# Altium schematic symbol library MCU_Microchip_PIC16.SchLib: 252 symbols (part 4 of 5)
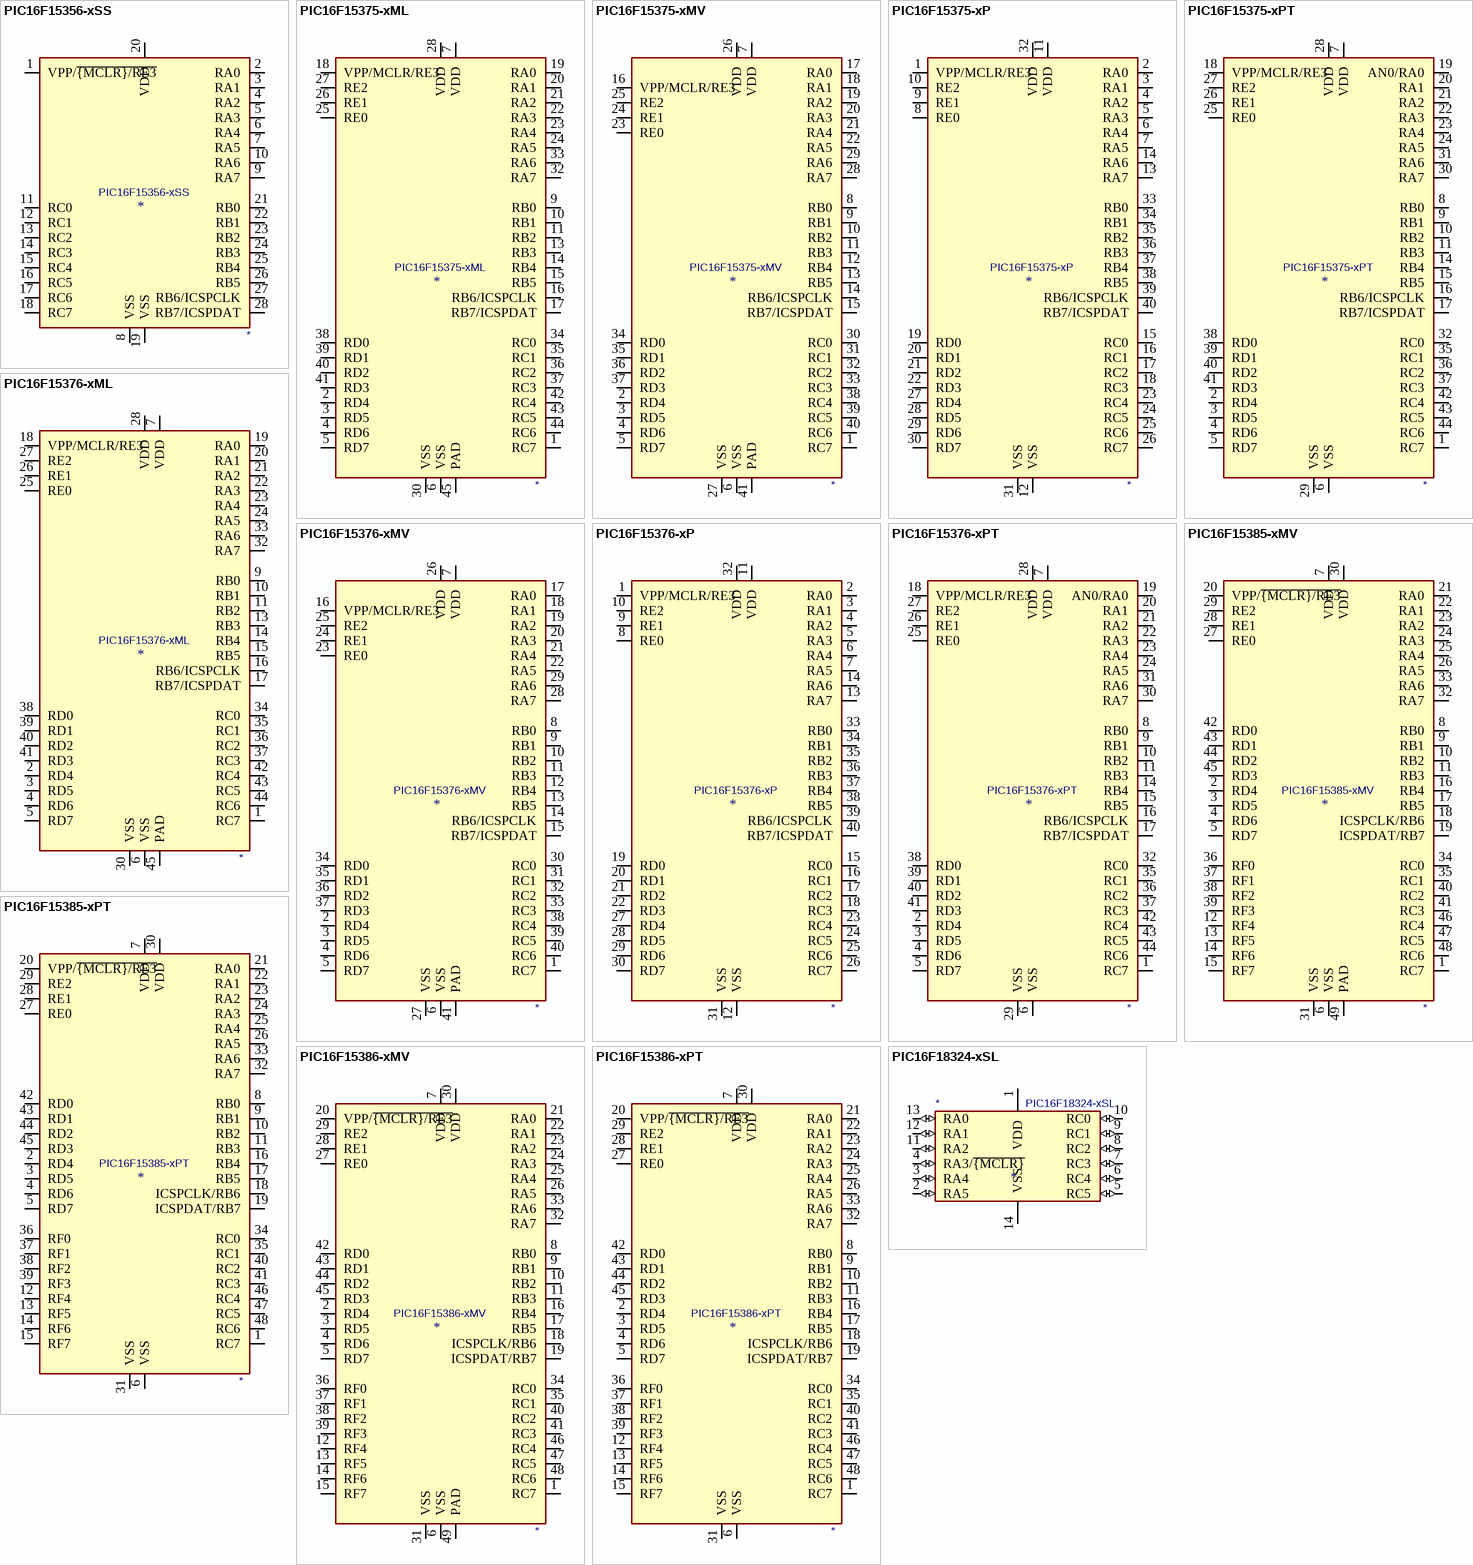
[diagram p21: symbols PIC16F15356-xSS to PIC16F18324-xSL]

## PIC16F15375-xML
designator *  value PIC16F15375-xML
ki_keywords: FLASH-Based 8-Bit CMOS Microcontroller Low Power; ki_description: 8KW FLASH, 1024B SRAM, QFN-44(8x8mm); ki_fp_filters: QFN*8x8mm*; Footprint: Package_DFN_QFN:QFN-44-1EP_8x8mm_P0.65mm_EP6.45x6.45mm; Supplier: http://ww1.microchip.com/downloads/en/DeviceDoc/PIC16LF15356-75-76-85-86-Data%20Sheet-40001866B.pdf
footprint QFN-44-1EP_8x8mm_P0.65mm_EP6.45x6.45mm
pins: 1 RC7 (io), 2 RD4 (io), 3 RD5 (io), 4 RD6 (io), 5 RD7 (io), 6 VSS (power), 7 VDD (power), 8 NC (in) hidden, 9 RB0 (io), 10 RB1 (io), 11 RB2 (io), 13 RB3 (io), 13 NC (in) hidden, 14 RB4 (io), 15 RB5 (io), 16 RB6/ICSPCLK (io), 17 RB7/ICSPDAT (io), 18 VPP/MCLR/RE3 (io), 19 RA0 (io), 20 RA1 (io), 21 RA2 (io), 22 RA3 (io), 23 RA4 (io), 24 RA5 (io), 25 RE0 (io), 26 RE1 (io), 27 RE2 (io), 28 VDD (power), 29 NC (in) hidden, 30 VSS (power), 31 NC (in) hidden, 32 RA7 (io), 33 RA6 (io), 34 RC0 (io), 35 RC1 (io), 36 RC2 (io), 37 RC3 (io), 38 RD0 (io), 39 RD1 (io), 40 RD2 (io), 41 RD3 (io), 42 RC4 (io), 43 RC5 (io), 44 RC6 (io), 45 PAD (power)

## PIC16F15375-xMV
designator *  value PIC16F15375-xMV
ki_keywords: FLASH-Based 8-Bit CMOS Microcontroller Low Power; ki_description: 8KW FLASH, 1024B SRAM, QFN-40(5x5mm); ki_fp_filters: QFN*5x5mm*EP3.8x3.8mm*; Footprint: Package_DFN_QFN:QFN-40-1EP_5x5mm_P0.4mm_EP3.8x3.8mm; Supplier: http://ww1.microchip.com/downloads/en/DeviceDoc/PIC16LF15356-75-76-85-86-Data%20Sheet-40001866B.pdf
footprint QFN-40-1EP_5x5mm_P0.4mm_EP3.8x3.8mm
pins: 1 RC7 (io), 2 RD4 (io), 3 RD5 (io), 4 RD6 (io), 5 RD7 (io), 6 VSS (power), 7 VDD (power), 8 RB0 (io), 9 RB1 (io), 10 RB2 (io), 11 RB3 (io), 12 RB4 (io), 13 RB5 (io), 14 RB6/ICSPCLK (io), 15 RB7/ICSPDAT (io), 16 VPP/MCLR/RE3 (io), 17 RA0 (io), 18 RA1 (io), 19 RA2 (io), 20 RA3 (io), 21 RA4 (io), 22 RA5 (io), 23 RE0 (io), 24 RE1 (io), 25 RE2 (io), 26 VDD (power), 27 VSS (power), 28 RA7 (io), 29 RA6 (io), 30 RC0 (io), 31 RC1 (io), 32 RC2 (io), 33 RC3 (io), 34 RD0 (io), 35 RD1 (io), 36 RD2 (io), 37 RD3 (io), 38 RC4 (io), 39 RC5 (io), 40 RC6 (io), 41 PAD (power)

## PIC16F15375-xP
designator *  value PIC16F15375-xP
ki_keywords: FLASH-Based 8-Bit CMOS Microcontroller Low Power; ki_description: 8KW FLASH, 1024B SRAM, DIP-40; ki_fp_filters: DIP*15.24mm*; Footprint: Package_DIP:DIP-40_W15.24mm; Supplier: http://ww1.microchip.com/downloads/en/DeviceDoc/PIC16LF15356-75-76-85-86-Data%20Sheet-40001866B.pdf
footprint DIP-40_W15.24mm
pins: 1 VPP/MCLR/RE3 (io), 2 RA0 (io), 3 RA1 (io), 4 RA2 (io), 5 RA3 (io), 6 RA4 (io), 7 RA5 (io), 8 RE0 (io), 9 RE1 (io), 10 RE2 (io), 11 VDD (power), 12 VSS (power), 13 RA7 (io), 14 RA6 (io), 15 RC0 (io), 16 RC1 (io), 17 RC2 (io), 18 RC3 (io), 19 RD0 (io), 20 RD1 (io), 21 RD2 (io), 22 RD3 (io), 23 RC4 (io), 24 RC5 (io), 25 RC6 (io), 26 RC7 (io), 27 RD4 (io), 28 RD5 (io), 29 RD6 (io), 30 RD7 (io), 31 VSS (power), 32 VDD (power), 33 RB0 (io), 34 RB1 (io), 35 RB2 (io), 36 RB3 (io), 37 RB4 (io), 38 RB5 (io), 39 RB6/ICSPCLK (io), 40 RB7/ICSPDAT (io)

## PIC16F15375-xPT
designator *  value PIC16F15375-xPT
ki_keywords: FLASH-Based 8-Bit CMOS Microcontroller Low Power; ki_description: 8KW FLASH, 1024B SRAM, TQFP-44(10x10mm); ki_fp_filters: TQFP*10x10mm*; Footprint: Package_QFP:TQFP-44_10x10mm_P0.8mm; Supplier: http://ww1.microchip.com/downloads/en/DeviceDoc/PIC16LF15356-75-76-85-86-Data%20Sheet-40001866B.pdf
footprint TQFP-44_10x10mm_P0.8mm
pins: 1 RC7 (io), 2 RD4 (io), 3 RD5 (io), 4 RD6 (io), 5 RD7 (io), 6 VSS (power), 7 VDD (power), 8 RB0 (io), 9 RB1 (io), 10 RB2 (io), 11 RB3 (io), 12 NC (in) hidden, 13 NC (in) hidden, 14 RB4 (io), 15 RB5 (io), 16 RB6/ICSPCLK (io), 17 RB7/ICSPDAT (io), 18 VPP/MCLR/RE3 (io), 19 AN0/RA0 (io), 20 RA1 (io), 21 RA2 (io), 22 RA3 (io), 23 RA4 (io), 24 RA5 (io), 25 RE0 (io), 26 RE1 (io), 27 RE2 (io), 28 VDD (power), 29 VSS (power), 30 RA7 (io), 31 RA6 (io), 32 RC0 (io), 33 NC (in) hidden, 34 NC (in) hidden, 35 RC1 (io), 36 RC2 (io), 37 RC3 (io), 38 RD0 (io), 39 RD1 (io), 40 RD2 (io), 41 RD3 (io), 42 RC4 (io), 43 RC5 (io), 44 RC6 (io)

## PIC16F15376-xML
designator *  value PIC16F15376-xML
ki_keywords: FLASH-Based 8-Bit CMOS Microcontroller Low Power; ki_description: 16KW FLASH, 2048B SRAM, QFN-44(8x8mm); ki_fp_filters: QFN*8x8mm*; Footprint: Package_DFN_QFN:QFN-44-1EP_8x8mm_P0.65mm_EP6.45x6.45mm; Supplier: http://ww1.microchip.com/downloads/en/DeviceDoc/PIC16LF15356-75-76-85-86-Data%20Sheet-40001866B.pdf
footprint QFN-44-1EP_8x8mm_P0.65mm_EP6.45x6.45mm
pins: 1 RC7 (io), 2 RD4 (io), 3 RD5 (io), 4 RD6 (io), 5 RD7 (io), 6 VSS (power), 7 VDD (power), 8 NC (in) hidden, 9 RB0 (io), 10 RB1 (io), 11 RB2 (io), 13 RB3 (io), 13 NC (in) hidden, 14 RB4 (io), 15 RB5 (io), 16 RB6/ICSPCLK (io), 17 RB7/ICSPDAT (io), 18 VPP/MCLR/RE3 (io), 19 RA0 (io), 20 RA1 (io), 21 RA2 (io), 22 RA3 (io), 23 RA4 (io), 24 RA5 (io), 25 RE0 (io), 26 RE1 (io), 27 RE2 (io), 28 VDD (power), 29 NC (in) hidden, 30 VSS (power), 31 NC (in) hidden, 32 RA7 (io), 33 RA6 (io), 34 RC0 (io), 35 RC1 (io), 36 RC2 (io), 37 RC3 (io), 38 RD0 (io), 39 RD1 (io), 40 RD2 (io), 41 RD3 (io), 42 RC4 (io), 43 RC5 (io), 44 RC6 (io), 45 PAD (power)

## PIC16F15376-xMV
designator *  value PIC16F15376-xMV
ki_keywords: FLASH-Based 8-Bit CMOS Microcontroller Low Power; ki_description: 16KW FLASH, 2048B SRAM, QFN-40(5x5mm); ki_fp_filters: QFN*5x5mm*EP3.8x3.8mm*; Footprint: Package_DFN_QFN:QFN-40-1EP_5x5mm_P0.4mm_EP3.8x3.8mm; Supplier: http://ww1.microchip.com/downloads/en/DeviceDoc/PIC16LF15356-75-76-85-86-Data%20Sheet-40001866B.pdf
footprint QFN-40-1EP_5x5mm_P0.4mm_EP3.8x3.8mm
pins: 1 RC7 (io), 2 RD4 (io), 3 RD5 (io), 4 RD6 (io), 5 RD7 (io), 6 VSS (power), 7 VDD (power), 8 RB0 (io), 9 RB1 (io), 10 RB2 (io), 11 RB3 (io), 12 RB4 (io), 13 RB5 (io), 14 RB6/ICSPCLK (io), 15 RB7/ICSPDAT (io), 16 VPP/MCLR/RE3 (io), 17 RA0 (io), 18 RA1 (io), 19 RA2 (io), 20 RA3 (io), 21 RA4 (io), 22 RA5 (io), 23 RE0 (io), 24 RE1 (io), 25 RE2 (io), 26 VDD (power), 27 VSS (power), 28 RA7 (io), 29 RA6 (io), 30 RC0 (io), 31 RC1 (io), 32 RC2 (io), 33 RC3 (io), 34 RD0 (io), 35 RD1 (io), 36 RD2 (io), 37 RD3 (io), 38 RC4 (io), 39 RC5 (io), 40 RC6 (io), 41 PAD (power)

## PIC16F15376-xP
designator *  value PIC16F15376-xP
ki_keywords: FLASH-Based 8-Bit CMOS Microcontroller Low Power; ki_description: 16KW FLASH, 2048B SRAM, DIP-40; ki_fp_filters: DIP*15.24mm*; Footprint: Package_DIP:DIP-40_W15.24mm; Supplier: http://ww1.microchip.com/downloads/en/DeviceDoc/PIC16LF15356-75-76-85-86-Data%20Sheet-40001866B.pdf
footprint DIP-40_W15.24mm
pins: 1 VPP/MCLR/RE3 (io), 2 RA0 (io), 3 RA1 (io), 4 RA2 (io), 5 RA3 (io), 6 RA4 (io), 7 RA5 (io), 8 RE0 (io), 9 RE1 (io), 10 RE2 (io), 11 VDD (power), 12 VSS (power), 13 RA7 (io), 14 RA6 (io), 15 RC0 (io), 16 RC1 (io), 17 RC2 (io), 18 RC3 (io), 19 RD0 (io), 20 RD1 (io), 21 RD2 (io), 22 RD3 (io), 23 RC4 (io), 24 RC5 (io), 25 RC6 (io), 26 RC7 (io), 27 RD4 (io), 28 RD5 (io), 29 RD6 (io), 30 RD7 (io), 31 VSS (power), 32 VDD (power), 33 RB0 (io), 34 RB1 (io), 35 RB2 (io), 36 RB3 (io), 37 RB4 (io), 38 RB5 (io), 39 RB6/ICSPCLK (io), 40 RB7/ICSPDAT (io)

## PIC16F15376-xPT
designator *  value PIC16F15376-xPT
ki_keywords: FLASH-Based 8-Bit CMOS Microcontroller Low Power; ki_description: 16KW FLASH, 2048B SRAM, TQFP-44(10x10mm); ki_fp_filters: TQFP*10x10mm*; Footprint: Package_QFP:TQFP-44_10x10mm_P0.8mm; Supplier: http://ww1.microchip.com/downloads/en/DeviceDoc/PIC16LF15356-75-76-85-86-Data%20Sheet-40001866B.pdf
footprint TQFP-44_10x10mm_P0.8mm
pins: 1 RC7 (io), 2 RD4 (io), 3 RD5 (io), 4 RD6 (io), 5 RD7 (io), 6 VSS (power), 7 VDD (power), 8 RB0 (io), 9 RB1 (io), 10 RB2 (io), 11 RB3 (io), 12 NC (in) hidden, 13 NC (in) hidden, 14 RB4 (io), 15 RB5 (io), 16 RB6/ICSPCLK (io), 17 RB7/ICSPDAT (io), 18 VPP/MCLR/RE3 (io), 19 AN0/RA0 (io), 20 RA1 (io), 21 RA2 (io), 22 RA3 (io), 23 RA4 (io), 24 RA5 (io), 25 RE0 (io), 26 RE1 (io), 27 RE2 (io), 28 VDD (power), 29 VSS (power), 30 RA7 (io), 31 RA6 (io), 32 RC0 (io), 33 NC (in) hidden, 34 NC (in) hidden, 35 RC1 (io), 36 RC2 (io), 37 RC3 (io), 38 RD0 (io), 39 RD1 (io), 40 RD2 (io), 41 RD3 (io), 42 RC4 (io), 43 RC5 (io), 44 RC6 (io)

## PIC16F15385-xMV
designator *  value PIC16F15385-xMV
ki_keywords: FLASH-Based 8-Bit CMOS Microcontroller Low Power; ki_description: 8KW FLASH, 1024B SRAM, QFN-48(6x6mm); ki_fp_filters: QFN*6x6mm*; Footprint: Package_DFN_QFN:QFN-48-1EP_6x6mm_P0.4mm_EP4.6x4.6mm; Supplier: http://ww1.microchip.com/downloads/en/DeviceDoc/PIC16LF15356-75-76-85-86-Data%20Sheet-40001866B.pdf
footprint QFN-48-1EP_6x6mm_P0.4mm_EP4.6x4.6mm
pins: 1 RC7 (io), 2 RD4 (io), 3 RD5 (io), 4 RD6 (io), 5 RD7 (io), 6 VSS (power), 7 VDD (power), 8 RB0 (io), 9 RB1 (io), 10 RB2 (io), 11 RB3 (io), 12 RF4 (io), 13 RF5 (io), 14 RF6 (io), 15 RF7 (io), 16 RB4 (io), 17 RB5 (io), 18 ICSPCLK/RB6 (io), 19 ICSPDAT/RB7 (io), 20 VPP/~{{MCLR}/RE3} (io), 21 RA0 (io), 22 RA1 (io), 23 RA2 (io), 24 RA3 (io), 25 RA4 (io), 26 RA5 (io), 27 RE0 (io), 28 RE1 (io), 29 RE2 (io), 30 VDD (power), 31 VSS (power), 32 RA7 (io), 33 RA6 (io), 34 RC0 (io), 35 RC1 (io), 36 RF0 (io), 37 RF1 (io), 38 RF2 (io), 39 RF3 (io), 40 RC2 (io), 41 RC3 (io), 42 RD0 (io), 43 RD1 (io), 44 RD2 (io), 45 RD3 (io), 46 RC4 (io), 47 RC5 (io), 48 RC6 (io), 49 PAD (power)

## PIC16F15385-xPT
designator *  value PIC16F15385-xPT
ki_keywords: FLASH-Based 8-Bit CMOS Microcontroller Low Power; ki_description: 8KW FLASH, 1024B SRAM, TQFP-48(7x7mm); ki_fp_filters: TQFP*7x7mm*; Footprint: Package_QFP:TQFP-48_7x7mm_P0.5mm; Supplier: http://ww1.microchip.com/downloads/en/DeviceDoc/PIC16LF15356-75-76-85-86-Data%20Sheet-40001866B.pdf
footprint TQFP-48_7x7mm_P0.5mm
pins: 1 RC7 (io), 2 RD4 (io), 3 RD5 (io), 4 RD6 (io), 5 RD7 (io), 6 VSS (power), 7 VDD (power), 8 RB0 (io), 9 RB1 (io), 10 RB2 (io), 11 RB3 (io), 12 RF4 (io), 13 RF5 (io), 14 RF6 (io), 15 RF7 (io), 16 RB4 (io), 17 RB5 (io), 18 ICSPCLK/RB6 (io), 19 ICSPDAT/RB7 (io), 20 VPP/~{{MCLR}/RE3} (io), 21 RA0 (io), 22 RA1 (io), 23 RA2 (io), 24 RA3 (io), 25 RA4 (io), 26 RA5 (io), 27 RE0 (io), 28 RE1 (io), 29 RE2 (io), 30 VDD (power), 31 VSS (power), 32 RA7 (io), 33 RA6 (io), 34 RC0 (io), 35 RC1 (io), 36 RF0 (io), 37 RF1 (io), 38 RF2 (io), 39 RF3 (io), 40 RC2 (io), 41 RC3 (io), 42 RD0 (io), 43 RD1 (io), 44 RD2 (io), 45 RD3 (io), 46 RC4 (io), 47 RC5 (io), 48 RC6 (io)

## PIC16F15386-xMV
designator *  value PIC16F15386-xMV
ki_keywords: FLASH-Based 8-Bit CMOS Microcontroller Low Power; ki_description: 16KW FLASH, 2048B SRAM, QFN-48(6x6mm); ki_fp_filters: QFN*6x6mm*; Footprint: Package_DFN_QFN:QFN-48-1EP_6x6mm_P0.4mm_EP4.6x4.6mm; Supplier: http://ww1.microchip.com/downloads/en/DeviceDoc/PIC16LF15356-75-76-85-86-Data%20Sheet-40001866B.pdf
footprint QFN-48-1EP_6x6mm_P0.4mm_EP4.6x4.6mm
pins: 1 RC7 (io), 2 RD4 (io), 3 RD5 (io), 4 RD6 (io), 5 RD7 (io), 6 VSS (power), 7 VDD (power), 8 RB0 (io), 9 RB1 (io), 10 RB2 (io), 11 RB3 (io), 12 RF4 (io), 13 RF5 (io), 14 RF6 (io), 15 RF7 (io), 16 RB4 (io), 17 RB5 (io), 18 ICSPCLK/RB6 (io), 19 ICSPDAT/RB7 (io), 20 VPP/~{{MCLR}/RE3} (io), 21 RA0 (io), 22 RA1 (io), 23 RA2 (io), 24 RA3 (io), 25 RA4 (io), 26 RA5 (io), 27 RE0 (io), 28 RE1 (io), 29 RE2 (io), 30 VDD (power), 31 VSS (power), 32 RA7 (io), 33 RA6 (io), 34 RC0 (io), 35 RC1 (io), 36 RF0 (io), 37 RF1 (io), 38 RF2 (io), 39 RF3 (io), 40 RC2 (io), 41 RC3 (io), 42 RD0 (io), 43 RD1 (io), 44 RD2 (io), 45 RD3 (io), 46 RC4 (io), 47 RC5 (io), 48 RC6 (io), 49 PAD (power)

## PIC16F15386-xPT
designator *  value PIC16F15386-xPT
ki_keywords: FLASH-Based 8-Bit CMOS Microcontroller Low Power; ki_description: 16KW FLASH, 2048B SRAM, TQFP-48(7x7mm); ki_fp_filters: TQFP*7x7mm*; Footprint: Package_QFP:TQFP-48_7x7mm_P0.5mm; Supplier: http://ww1.microchip.com/downloads/en/DeviceDoc/PIC16LF15356-75-76-85-86-Data%20Sheet-40001866B.pdf
footprint TQFP-48_7x7mm_P0.5mm
pins: 1 RC7 (io), 2 RD4 (io), 3 RD5 (io), 4 RD6 (io), 5 RD7 (io), 6 VSS (power), 7 VDD (power), 8 RB0 (io), 9 RB1 (io), 10 RB2 (io), 11 RB3 (io), 12 RF4 (io), 13 RF5 (io), 14 RF6 (io), 15 RF7 (io), 16 RB4 (io), 17 RB5 (io), 18 ICSPCLK/RB6 (io), 19 ICSPDAT/RB7 (io), 20 VPP/~{{MCLR}/RE3} (io), 21 RA0 (io), 22 RA1 (io), 23 RA2 (io), 24 RA3 (io), 25 RA4 (io), 26 RA5 (io), 27 RE0 (io), 28 RE1 (io), 29 RE2 (io), 30 VDD (power), 31 VSS (power), 32 RA7 (io), 33 RA6 (io), 34 RC0 (io), 35 RC1 (io), 36 RF0 (io), 37 RF1 (io), 38 RF2 (io), 39 RF3 (io), 40 RC2 (io), 41 RC3 (io), 42 RD0 (io), 43 RD1 (io), 44 RD2 (io), 45 RD3 (io), 46 RC4 (io), 47 RC5 (io), 48 RC6 (io)

## PIC16F18324-xSL
designator *  value PIC16F18324-xSL
ki_keywords: FLASH-Based 8-Bit CMOS Microcontroller Low Power; ki_description: PIC16F18324, 4096W FLASH, 512B SRAM, 256B EEPROM, SOIC14; ki_fp_filters: SOIC*3.9x8.7mm*P1.27mm*; Footprint: Package_SO:SOIC-14_3.9x8.7mm_P1.27mm; Supplier: http://ww1.microchip.com/downloads/en/devicedoc/40001800c.pdf
footprint SOIC-14_3.9x8.7mm_P1.27mm
pins: 1 VDD (power), 2 RA5 (io), 3 RA4 (io), 4 RA3/~{{MCLR}} (io), 5 RC5 (io), 6 RC4 (io), 7 RC3 (io), 8 RC2 (io), 9 RC1 (io), 10 RC0 (io), 11 RA2 (io), 12 RA1 (io), 13 RA0 (io), 14 VSS (power)

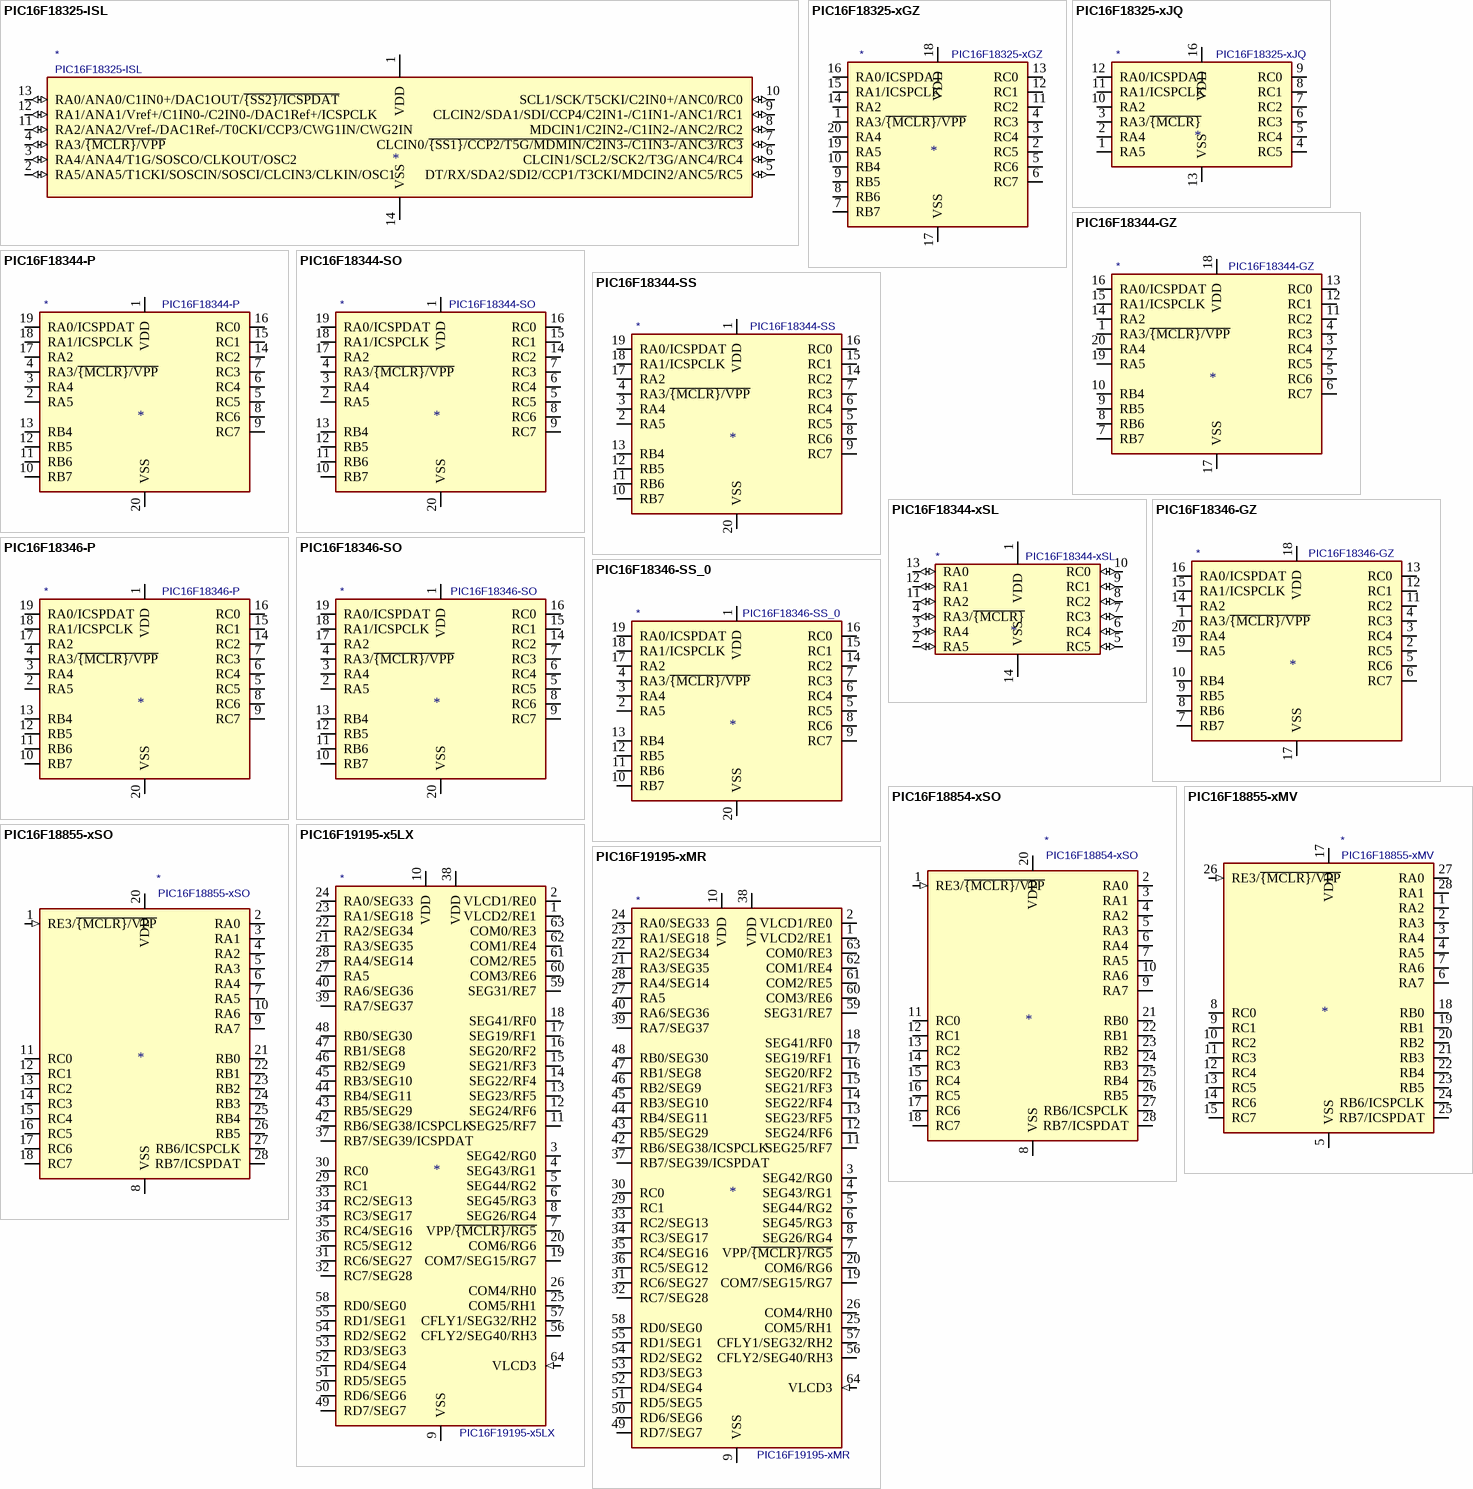
[diagram p15: symbols PIC16F18325-ISL to PIC16F19195-xMR]

## PIC16F18325-ISL
designator *  value PIC16F18325-ISL
ki_keywords: FLASH-Based 8-Bit CMOS Microcontroller Low Power; ki_description: PIC16F18325, 8192W FLASH, 1024B SRAM, SOIC14; ki_fp_filters: SOIC*3.9x8.7mm*P1.27mm*; Footprint: Package_SO:SOIC-14_3.9x8.7mm_P1.27mm; Supplier: http://ww1.microchip.com/downloads/en/devicedoc/40001795b.pdf
footprint SOIC-14_3.9x8.7mm_P1.27mm
pins: 1 VDD (power), 2 RA5/ANA5/T1CKI/SOSCIN/SOSCI/CLCIN3/CLKIN/OSC1 (io), 3 RA4/ANA4/T1G/SOSCO/CLKOUT/OSC2 (io), 4 RA3/~{{MCLR}/VPP} (io), 5 DT/RX/SDA2/SDI2/CCP1/T3CKI/MDCIN2/ANC5/RC5 (io), 6 CLCIN1/SCL2/SCK2/T3G/ANC4/RC4 (io), 7 CLCIN0/~{{SS1}/CCP2/T5G/MDMIN/C2IN3-/C1IN3-/ANC3/RC3} (io), 8 MDCIN1/C2IN2-/C1IN2-/ANC2/RC2 (io), 9 CLCIN2/SDA1/SDI/CCP4/C2IN1-/C1IN1-/ANC1/RC1 (io), 10 SCL1/SCK/T5CKI/C2IN0+/ANC0/RC0 (io), 11 RA2/ANA2/Vref-/DAC1Ref-/T0CKI/CCP3/CWG1IN/CWG2IN (io), 12 RA1/ANA1/Vref+/C1IN0-/C2IN0-/DAC1Ref+/ICSPCLK (io), 13 RA0/ANA0/C1IN0+/DAC1OUT/~{{SS2}/ICSPDAT} (io), 14 VSS (power)

## PIC16F18325-xGZ
designator *  value PIC16F18325-xGZ
ki_keywords: FLASH-Based 8-Bit CMOS Microcontroller Low Power; ki_description: 8192W FLASH, 1024B SRAM, 256B EEPROM, QFN-20; ki_fp_filters: UQFN*1EP*4x4mm*P0.5mm*; Footprint: Package_DFN_QFN:UQFN-20-1EP_4x4mm_P0.5mm_EP2.8x2.8mm; Supplier: http://ww1.microchip.com/downloads/en/DeviceDoc/40001795E.pdf
footprint UQFN-20-1EP_4x4mm_P0.5mm_EP2.8x2.8mm
pins: 1 RA3/~{{MCLR}/VPP} (io), 2 RC5 (io), 3 RC4 (io), 4 RC3 (io), 5 RC6 (io), 6 RC7 (io), 7 RB7 (io), 8 RB6 (io), 9 RB5 (io), 10 RB4 (io), 11 RC2 (io), 12 RC1 (io), 13 RC0 (io), 14 RA2 (io), 15 RA1/ICSPCLK (io), 16 RA0/ICSPDAT (io), 17 VSS (power), 18 VDD (power), 19 RA5 (io), 20 RA4 (io), 21 VSS hidden

## PIC16F18325-xJQ
designator *  value PIC16F18325-xJQ
ki_keywords: FLASH-Based 8-Bit CMOS Microcontroller Low Power; ki_description: 8192W FLASH, 1024B SRAM, 256B EEPROM, QFN-16; ki_fp_filters: UQFN*1EP*4x4mm*P0.65mm*EP2.6x2.6mm*; Footprint: Package_DFN_QFN:UQFN-16-1EP_4x4mm_P0.65mm_EP2.6x2.6mm; Supplier: http://ww1.microchip.com/downloads/en/DeviceDoc/40001795E.pdf
footprint UQFN-16-1EP_4x4mm_P0.65mm_EP2.6x2.6mm
pins: 1 RA5 (io), 2 RA4 (io), 3 RA3/~{{MCLR}} (io), 4 RC5 (io), 5 RC4 (io), 6 RC3 (io), 7 RC2 (io), 8 RC1 (io), 9 RC0 (io), 10 RA2 (io), 11 RA1/ICSPCLK (io), 12 RA0/ICSPDAT (io), 13 VSS (power), 14 NC (in) hidden, 15 NC (in) hidden, 16 VDD (power)

## PIC16F18344-GZ
designator *  value PIC16F18344-GZ
ki_keywords: FLASH-Based 8-Bit CMOS Microcontroller Low Power; ki_description: 4096W FLASH, 512B RAM, 256B EEPROM, UQFN-20; ki_fp_filters: *UQFN*4x4mm*P0.5mm*; Footprint: Package_DFN_QFN:UQFN-20-1EP_4x4mm_P0.5mm_EP2.8x2.8mm; Supplier: http://ww1.microchip.com/downloads/en/DeviceDoc/40001839B.pdf
footprint UQFN-20-1EP_4x4mm_P0.5mm_EP2.8x2.8mm
pins: 1 RA3/~{{MCLR}/VPP} (io), 2 RC5 (io), 3 RC4 (io), 4 RC3 (io), 5 RC6 (io), 6 RC7 (io), 7 RB7 (io), 8 RB6 (io), 9 RB5 (io), 10 RB4 (io), 11 RC2 (io), 12 RC1 (io), 13 RC0 (io), 14 RA2 (io), 15 RA1/ICSPCLK (io), 16 RA0/ICSPDAT (io), 17 VSS (power), 18 VDD (power), 19 RA5 (io), 20 RA4 (io)

## PIC16F18344-P
designator *  value PIC16F18344-P
ki_keywords: FLASH-Based 8-Bit CMOS Microcontroller Low Power; ki_description: 4096W FLASH, 512B RAM, 256B EEPROM, PDIP-20; ki_fp_filters: DIP*W7.62mm*; Footprint: Package_DIP:DIP-20_W7.62mm; Supplier: http://ww1.microchip.com/downloads/en/devicedoc/40001800a.pdf
footprint DIP-20_W7.62mm
pins: 1 VDD (power), 2 RA5 (io), 3 RA4 (io), 4 RA3/~{{MCLR}/VPP} (io), 5 RC5 (io), 6 RC4 (io), 7 RC3 (io), 8 RC6 (io), 9 RC7 (io), 10 RB7 (io), 11 RB6 (io), 12 RB5 (io), 13 RB4 (io), 14 RC2 (io), 15 RC1 (io), 16 RC0 (io), 17 RA2 (io), 18 RA1/ICSPCLK (io), 19 RA0/ICSPDAT (io), 20 VSS (power)

## PIC16F18344-SO
designator *  value PIC16F18344-SO
ki_keywords: FLASH-Based 8-Bit CMOS Microcontroller Low Power; ki_description: 4096W FLASH, 512B RAM, 256B EEPROM, SOIC-20; ki_fp_filters: SOIC*7.5x12.8mm*P1.27mm*; Footprint: Package_SO:SOIC-20W_7.5x12.8mm_P1.27mm; Supplier: http://ww1.microchip.com/downloads/en/devicedoc/40001800a.pdf
footprint SOIC-20W_7.5x12.8mm_P1.27mm
pins: 1 VDD (power), 2 RA5 (io), 3 RA4 (io), 4 RA3/~{{MCLR}/VPP} (io), 5 RC5 (io), 6 RC4 (io), 7 RC3 (io), 8 RC6 (io), 9 RC7 (io), 10 RB7 (io), 11 RB6 (io), 12 RB5 (io), 13 RB4 (io), 14 RC2 (io), 15 RC1 (io), 16 RC0 (io), 17 RA2 (io), 18 RA1/ICSPCLK (io), 19 RA0/ICSPDAT (io), 20 VSS (power)

## PIC16F18344-SS
designator *  value PIC16F18344-SS
ki_keywords: FLASH-Based 8-Bit CMOS Microcontroller Low Power; ki_description: 4096W FLASH, 512B RAM, 256B EEPROM, SSOP-20; ki_fp_filters: SSOP*5.3x7.2mm*P0.65mm*; Footprint: Package_SO:SSOP-20_5.3x7.2mm_P0.65mm; Supplier: http://ww1.microchip.com/downloads/en/devicedoc/40001800a.pdf
footprint SSOP-20_5.3x7.2mm_P0.65mm
pins: 1 VDD (power), 2 RA5 (io), 3 RA4 (io), 4 RA3/~{{MCLR}/VPP} (io), 5 RC5 (io), 6 RC4 (io), 7 RC3 (io), 8 RC6 (io), 9 RC7 (io), 10 RB7 (io), 11 RB6 (io), 12 RB5 (io), 13 RB4 (io), 14 RC2 (io), 15 RC1 (io), 16 RC0 (io), 17 RA2 (io), 18 RA1/ICSPCLK (io), 19 RA0/ICSPDAT (io), 20 VSS (power)

## PIC16F18344-xSL
designator *  value PIC16F18344-xSL
ki_keywords: FLASH-Based 8-Bit CMOS Microcontroller Low Power; ki_description: PIC16F18324, 4096W FLASH, 512B SRAM, 256B EEPROM, SOIC14; ki_fp_filters: SOIC*3.9x8.7mm*P1.27mm*; Footprint: Package_SO:SOIC-14_3.9x8.7mm_P1.27mm; Supplier: http://ww1.microchip.com/downloads/en/devicedoc/40001800c.pdf
footprint SOIC-14_3.9x8.7mm_P1.27mm
pins: 1 VDD (power), 2 RA5 (io), 3 RA4 (io), 4 RA3/~{{MCLR}} (io), 5 RC5 (io), 6 RC4 (io), 7 RC3 (io), 8 RC2 (io), 9 RC1 (io), 10 RC0 (io), 11 RA2 (io), 12 RA1 (io), 13 RA0 (io), 14 VSS (power)

## PIC16F18346-GZ
designator *  value PIC16F18346-GZ
ki_keywords: FLASH-Based 8-Bit CMOS Microcontroller Low Power; ki_description: 16384W FLASH, 2048B RAM, 256B EEPROM, UQFN-20; ki_fp_filters: *UQFN*4x4mm*P0.5mm*; Footprint: Package_DFN_QFN:UQFN-20-1EP_4x4mm_P0.5mm_EP2.8x2.8mm; Supplier: http://ww1.microchip.com/downloads/en/DeviceDoc/40001839B.pdf
footprint UQFN-20-1EP_4x4mm_P0.5mm_EP2.8x2.8mm
pins: 1 RA3/~{{MCLR}/VPP} (io), 2 RC5 (io), 3 RC4 (io), 4 RC3 (io), 5 RC6 (io), 6 RC7 (io), 7 RB7 (io), 8 RB6 (io), 9 RB5 (io), 10 RB4 (io), 11 RC2 (io), 12 RC1 (io), 13 RC0 (io), 14 RA2 (io), 15 RA1/ICSPCLK (io), 16 RA0/ICSPDAT (io), 17 VSS (power), 18 VDD (power), 19 RA5 (io), 20 RA4 (io)

## PIC16F18346-P
designator *  value PIC16F18346-P
ki_keywords: FLASH-Based 8-Bit CMOS Microcontroller Low Power; ki_description: 16384W FLASH, 2048B RAM, 256B EEPROM, PDIP-20; ki_fp_filters: DIP*W7.62mm*; Footprint: Package_DIP:DIP-20_W7.62mm; Supplier: http://ww1.microchip.com/downloads/en/DeviceDoc/40001839B.pdf
footprint DIP-20_W7.62mm
pins: 1 VDD (power), 2 RA5 (io), 3 RA4 (io), 4 RA3/~{{MCLR}/VPP} (io), 5 RC5 (io), 6 RC4 (io), 7 RC3 (io), 8 RC6 (io), 9 RC7 (io), 10 RB7 (io), 11 RB6 (io), 12 RB5 (io), 13 RB4 (io), 14 RC2 (io), 15 RC1 (io), 16 RC0 (io), 17 RA2 (io), 18 RA1/ICSPCLK (io), 19 RA0/ICSPDAT (io), 20 VSS (power)

## PIC16F18346-SO
designator *  value PIC16F18346-SO
ki_keywords: FLASH-Based 8-Bit CMOS Microcontroller Low Power; ki_description: 16384W FLASH, 2048B RAM, 256B EEPROM, SOIC-20; ki_fp_filters: SOIC*7.5x12.8mm*P1.27mm*; Footprint: Package_SO:SOIC-20W_7.5x12.8mm_P1.27mm; Supplier: http://ww1.microchip.com/downloads/en/DeviceDoc/40001839B.pdf
footprint SOIC-20W_7.5x12.8mm_P1.27mm
pins: 1 VDD (power), 2 RA5 (io), 3 RA4 (io), 4 RA3/~{{MCLR}/VPP} (io), 5 RC5 (io), 6 RC4 (io), 7 RC3 (io), 8 RC6 (io), 9 RC7 (io), 10 RB7 (io), 11 RB6 (io), 12 RB5 (io), 13 RB4 (io), 14 RC2 (io), 15 RC1 (io), 16 RC0 (io), 17 RA2 (io), 18 RA1/ICSPCLK (io), 19 RA0/ICSPDAT (io), 20 VSS (power)

## PIC16F18346-SS_0
designator *  value PIC16F18346-SS_0
ki_keywords: FLASH-Based 8-Bit CMOS Microcontroller Low Power; ki_description: 16384W FLASH, 2048B RAM, 256B EEPROM, SSOP-20; ki_fp_filters: SSOP*5.3x7.2mm*P0.65mm*; Footprint: Package_SO:SSOP-20_5.3x7.2mm_P0.65mm; Supplier: http://ww1.microchip.com/downloads/en/DeviceDoc/40001839B.pdf
footprint SSOP-20_5.3x7.2mm_P0.65mm
pins: 1 VDD (power), 2 RA5 (io), 3 RA4 (io), 4 RA3/~{{MCLR}/VPP} (io), 5 RC5 (io), 6 RC4 (io), 7 RC3 (io), 8 RC6 (io), 9 RC7 (io), 10 RB7 (io), 11 RB6 (io), 12 RB5 (io), 13 RB4 (io), 14 RC2 (io), 15 RC1 (io), 16 RC0 (io), 17 RA2 (io), 18 RA1/ICSPCLK (io), 19 RA0/ICSPDAT (io), 20 VSS (power)

## PIC16F18854-xSO
designator *  value PIC16F18854-xSO
ki_keywords: FLASH-Based 8-Bit CMOS Microcontroller Low Power CRC DSM  ADC^2 CLC PLL 32MHz; ki_description: 8-bit Flash MCU, 32MHz, 7KB Flash, 512B RAM 256B EEPROM, SOIC-28; ki_fp_filters: SOIC*7.5x17.9mm*P1.27mm*; Footprint: Package_SO:SOIC-28W_7.5x17.9mm_P1.27mm; Supplier: http://ww1.microchip.com/downloads/en/DeviceDoc/PIC16LF18855-75-Data-Sheet-40001802F.pdf
footprint SOIC-28W_7.5x17.9mm_P1.27mm
pins: 1 RE3/~{{MCLR}/VPP} (in), 2 RA0 (io), 3 RA1 (io), 4 RA2 (io), 5 RA3 (io), 6 RA4 (io), 7 RA5 (io), 8 VSS (power), 9 RA7 (io), 10 RA6 (io), 11 RC0 (io), 12 RC1 (io), 13 RC2 (io), 14 RC3 (io), 15 RC4 (io), 16 RC5 (io), 17 RC6 (io), 18 RC7 (io), 19 VSS hidden, 20 VDD (power), 21 RB0 (io), 22 RB1 (io), 23 RB2 (io), 24 RB3 (io), 25 RB4 (io), 26 RB5 (io), 27 RB6/ICSPCLK (io), 28 RB7/ICSPDAT (io)

## PIC16F18855-xMV
designator *  value PIC16F18855-xMV
ki_keywords: FLASH-Based 8-Bit CMOS Microcontroller Low Power CRC DSM  ADC^2 CLC PLL 32MHz; ki_description: 8-bit Flash MCU, 32MHz, 14KB Flash, 1KB RAM 256B EEPROM, UQFN-28; ki_fp_filters: UQFN*1EP*4x4mm*P0.4mm*; Footprint: Package_DFN_QFN:UQFN-28-1EP_4x4mm_P0.4mm_EP2.35x2.35mm; Supplier: http://ww1.microchip.com/downloads/en/DeviceDoc/PIC16LF18855-75-Data-Sheet-40001802F.pdf
footprint UQFN-28-1EP_4x4mm_P0.4mm_EP2.35x2.35mm
pins: 1 RA2 (io), 2 RA3 (io), 3 RA4 (io), 4 RA5 (io), 5 VSS (power), 6 RA7 (io), 7 RA6 (io), 8 RC0 (io), 9 RC1 (io), 10 RC2 (io), 11 RC3 (io), 12 RC4 (io), 13 RC5 (io), 14 RC6 (io), 15 RC7 (io), 16 VSS hidden, 17 VDD (power), 18 RB0 (io), 19 RB1 (io), 20 RB2 (io), 21 RB3 (io), 22 RB4 (io), 23 RB5 (io), 24 RB6/ICSPCLK (io), 25 RB7/ICSPDAT (io), 26 RE3/~{{MCLR}/VPP} (in), 27 RA0 (io), 28 RA1 (io), 29 VSS hidden

## PIC16F18855-xSO
designator *  value PIC16F18855-xSO
ki_keywords: FLASH-Based 8-Bit CMOS Microcontroller Low Power CRC DSM  ADC^2 CLC PLL 32MHz; ki_description: 8-bit Flash MCU, 32MHz, 14KB Flash, 1024B RAM 256B EEPROM, SOIC-28; ki_fp_filters: SOIC*7.5x17.9mm*P1.27mm*; Footprint: Package_SO:SOIC-28W_7.5x17.9mm_P1.27mm; Supplier: http://ww1.microchip.com/downloads/en/DeviceDoc/40001802G.pdf
footprint SOIC-28W_7.5x17.9mm_P1.27mm
pins: 1 RE3/~{{MCLR}/VPP} (in), 2 RA0 (io), 3 RA1 (io), 4 RA2 (io), 5 RA3 (io), 6 RA4 (io), 7 RA5 (io), 8 VSS (power), 9 RA7 (io), 10 RA6 (io), 11 RC0 (io), 12 RC1 (io), 13 RC2 (io), 14 RC3 (io), 15 RC4 (io), 16 RC5 (io), 17 RC6 (io), 18 RC7 (io), 19 VSS hidden, 20 VDD (power), 21 RB0 (io), 22 RB1 (io), 23 RB2 (io), 24 RB3 (io), 25 RB4 (io), 26 RB5 (io), 27 RB6/ICSPCLK (io), 28 RB7/ICSPDAT (io)

## PIC16F19195-x5LX
designator *  value PIC16F19195-x5LX
ki_keywords: FLASH-Based 8-Bit CMOS Microcontroller; ki_description: 8kW FLASH, 1kB RAM, 256B EEPROM, VQFN-64; ki_fp_filters: VQFN*9x9mm*P0.5mm*; Footprint: Package_DFN_QFN:VQFN-64-1EP_9x9mm_P0.5mm_EP5.4x5.4mm; Supplier: http://ww1.microchip.com/downloads/en/DeviceDoc/PIC16LF19195-6-7-Data-Sheet-40001873D.pdf
footprint VQFN-64-1EP_9x9mm_P0.5mm_EP5.4x5.4mm
pins: 1 VLCD2/RE1 (io), 2 VLCD1/RE0 (io), 3 SEG42/RG0 (io), 4 SEG43/RG1 (io), 5 SEG44/RG2 (io), 6 SEG45/RG3 (io), 7 VPP/~{{MCLR}/RG5} (io), 8 SEG26/RG4 (io), 9 VSS (power), 10 VDD (power), 11 SEG25/RF7 (io), 12 SEG24/RF6 (io), 13 SEG23/RF5 (io), 14 SEG22/RF4 (io), 15 SEG21/RF3 (io), 16 SEG20/RF2 (io), 17 SEG19/RF1 (io), 18 SEG41/RF0 (io), 19 COM7/SEG15/RG7 (io), 20 COM6/RG6 (io), 21 RA3/SEG35 (io), 22 RA2/SEG34 (io), 23 RA1/SEG18 (io), 24 RA0/SEG33 (io), 25 COM5/RH1 (io), 26 COM4/RH0 (io), 27 RA5 (io), 28 RA4/SEG14 (io), 29 RC1 (io), 30 RC0 (io), 31 RC6/SEG27 (io), 32 RC7/SEG28 (io), 33 RC2/SEG13 (io), 34 RC3/SEG17 (io), 35 RC4/SEG16 (io), 36 RC5/SEG12 (io), 37 RB7/SEG39/ICSPDAT (io), 38 VDD (power), 39 RA7/SEG37 (io), 40 RA6/SEG36 (io), 41 VSS hidden, 42 RB6/SEG38/ICSPCLK (io), 43 RB5/SEG29 (io), 44 RB4/SEG11 (io), 45 RB3/SEG10 (io), 46 RB2/SEG9 (io), 47 RB1/SEG8 (io), 48 RB0/SEG30 (io), 49 RD7/SEG7 (io), 50 RD6/SEG6 (io), 51 RD5/SEG5 (io), 52 RD4/SEG4 (io), 53 RD3/SEG3 (io), 54 RD2/SEG2 (io), 55 RD1/SEG1 (io), 56 CFLY2/SEG40/RH3 (io), 57 CFLY1/SEG32/RH2 (io), 58 RD0/SEG0 (io), 59 SEG31/RE7 (io), 60 COM3/RE6 (io), 61 COM2/RE5 (io), 62 COM1/RE4 (io), 63 COM0/RE3 (io), 64 VLCD3 (in), 65 VSS hidden

## PIC16F19195-xMR
designator *  value PIC16F19195-xMR
ki_keywords: FLASH-Based 8-Bit CMOS Microcontroller; ki_description: 8kW FLASH, 1kB RAM, 256B EEPROM, QFN-64; ki_fp_filters: QFN*9x9mm*P0.5mm*; Footprint: Package_DFN_QFN:QFN-64-1EP_9x9mm_P0.5mm_EP5.4x5.4mm; Supplier: http://ww1.microchip.com/downloads/en/DeviceDoc/PIC16LF19195-6-7-Data-Sheet-40001873D.pdf
footprint QFN-64-1EP_9x9mm_P0.5mm_EP5.4x5.4mm
pins: 1 VLCD2/RE1 (io), 2 VLCD1/RE0 (io), 3 SEG42/RG0 (io), 4 SEG43/RG1 (io), 5 SEG44/RG2 (io), 6 SEG45/RG3 (io), 7 VPP/~{{MCLR}/RG5} (io), 8 SEG26/RG4 (io), 9 VSS (power), 10 VDD (power), 11 SEG25/RF7 (io), 12 SEG24/RF6 (io), 13 SEG23/RF5 (io), 14 SEG22/RF4 (io), 15 SEG21/RF3 (io), 16 SEG20/RF2 (io), 17 SEG19/RF1 (io), 18 SEG41/RF0 (io), 19 COM7/SEG15/RG7 (io), 20 COM6/RG6 (io), 21 RA3/SEG35 (io), 22 RA2/SEG34 (io), 23 RA1/SEG18 (io), 24 RA0/SEG33 (io), 25 COM5/RH1 (io), 26 COM4/RH0 (io), 27 RA5 (io), 28 RA4/SEG14 (io), 29 RC1 (io), 30 RC0 (io), 31 RC6/SEG27 (io), 32 RC7/SEG28 (io), 33 RC2/SEG13 (io), 34 RC3/SEG17 (io), 35 RC4/SEG16 (io), 36 RC5/SEG12 (io), 37 RB7/SEG39/ICSPDAT (io), 38 VDD (power), 39 RA7/SEG37 (io), 40 RA6/SEG36 (io), 41 VSS hidden, 42 RB6/SEG38/ICSPCLK (io), 43 RB5/SEG29 (io), 44 RB4/SEG11 (io), 45 RB3/SEG10 (io), 46 RB2/SEG9 (io), 47 RB1/SEG8 (io), 48 RB0/SEG30 (io), 49 RD7/SEG7 (io), 50 RD6/SEG6 (io), 51 RD5/SEG5 (io), 52 RD4/SEG4 (io), 53 RD3/SEG3 (io), 54 RD2/SEG2 (io), 55 RD1/SEG1 (io), 56 CFLY2/SEG40/RH3 (io), 57 CFLY1/SEG32/RH2 (io), 58 RD0/SEG0 (io), 59 SEG31/RE7 (io), 60 COM3/RE6 (io), 61 COM2/RE5 (io), 62 COM1/RE4 (io), 63 COM0/RE3 (io), 64 VLCD3 (in), 65 VSS hidden

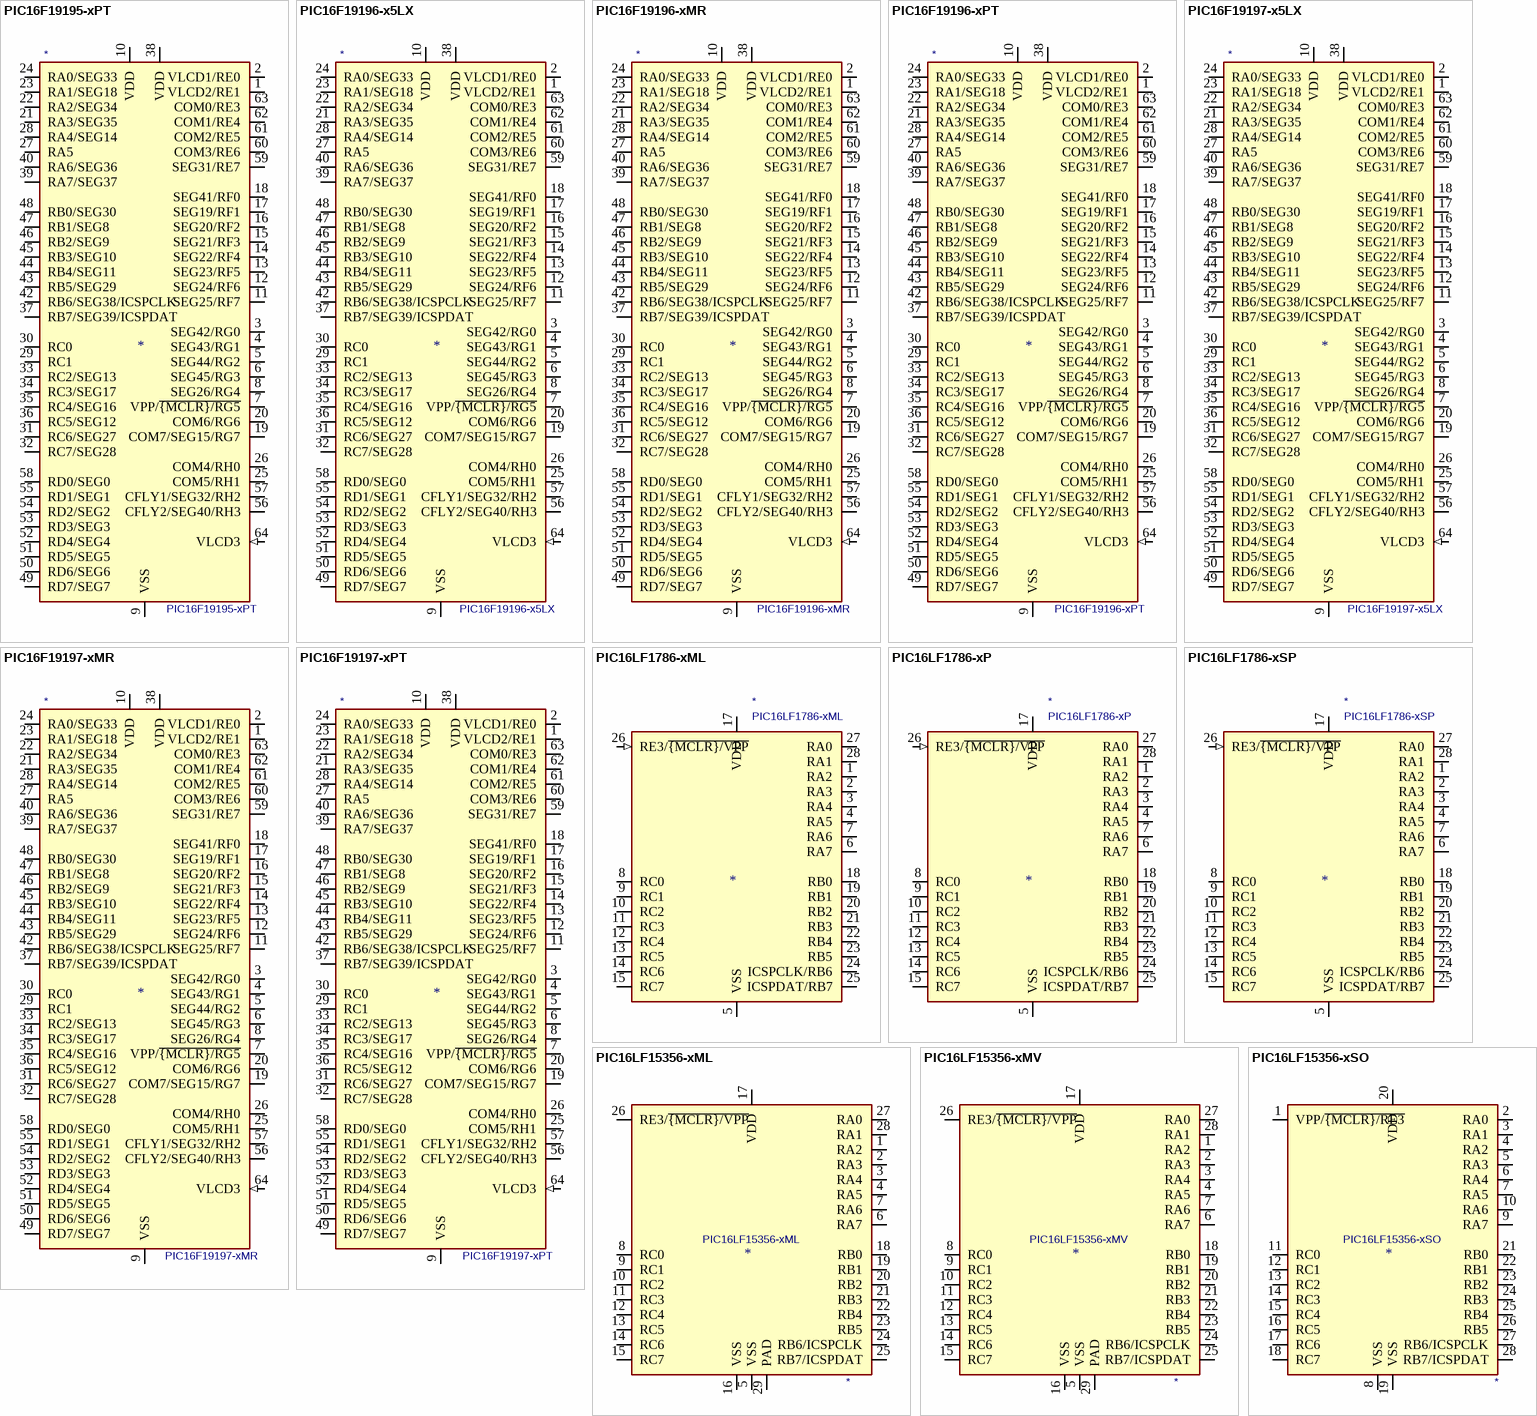
[diagram p16: symbols PIC16F19195-xPT to PIC16LF15356-xSO]

## PIC16F19195-xPT
designator *  value PIC16F19195-xPT
ki_keywords: FLASH-Based 8-Bit CMOS Microcontroller; ki_description: 8kW FLASH, 1kB RAM, 256B EEPROM, TQFP-64; ki_fp_filters: TQFP*10x10mm*P0.5mm*; Footprint: Package_QFP:TQFP-64_10x10mm_P0.5mm; Supplier: http://ww1.microchip.com/downloads/en/DeviceDoc/PIC16LF19195-6-7-Data-Sheet-40001873D.pdf
footprint TQFP-64_10x10mm_P0.5mm
pins: 1 VLCD2/RE1 (io), 2 VLCD1/RE0 (io), 3 SEG42/RG0 (io), 4 SEG43/RG1 (io), 5 SEG44/RG2 (io), 6 SEG45/RG3 (io), 7 VPP/~{{MCLR}/RG5} (io), 8 SEG26/RG4 (io), 9 VSS (power), 10 VDD (power), 11 SEG25/RF7 (io), 12 SEG24/RF6 (io), 13 SEG23/RF5 (io), 14 SEG22/RF4 (io), 15 SEG21/RF3 (io), 16 SEG20/RF2 (io), 17 SEG19/RF1 (io), 18 SEG41/RF0 (io), 19 COM7/SEG15/RG7 (io), 20 COM6/RG6 (io), 21 RA3/SEG35 (io), 22 RA2/SEG34 (io), 23 RA1/SEG18 (io), 24 RA0/SEG33 (io), 25 COM5/RH1 (io), 26 COM4/RH0 (io), 27 RA5 (io), 28 RA4/SEG14 (io), 29 RC1 (io), 30 RC0 (io), 31 RC6/SEG27 (io), 32 RC7/SEG28 (io), 33 RC2/SEG13 (io), 34 RC3/SEG17 (io), 35 RC4/SEG16 (io), 36 RC5/SEG12 (io), 37 RB7/SEG39/ICSPDAT (io), 38 VDD (power), 39 RA7/SEG37 (io), 40 RA6/SEG36 (io), 41 VSS hidden, 42 RB6/SEG38/ICSPCLK (io), 43 RB5/SEG29 (io), 44 RB4/SEG11 (io), 45 RB3/SEG10 (io), 46 RB2/SEG9 (io), 47 RB1/SEG8 (io), 48 RB0/SEG30 (io), 49 RD7/SEG7 (io), 50 RD6/SEG6 (io), 51 RD5/SEG5 (io), 52 RD4/SEG4 (io), 53 RD3/SEG3 (io), 54 RD2/SEG2 (io), 55 RD1/SEG1 (io), 56 CFLY2/SEG40/RH3 (io), 57 CFLY1/SEG32/RH2 (io), 58 RD0/SEG0 (io), 59 SEG31/RE7 (io), 60 COM3/RE6 (io), 61 COM2/RE5 (io), 62 COM1/RE4 (io), 63 COM0/RE3 (io), 64 VLCD3 (in)

## PIC16F19196-x5LX
designator *  value PIC16F19196-x5LX
ki_keywords: FLASH-Based 8-Bit CMOS Microcontroller; ki_description: 16kW FLASH, 2kB RAM, 256B EEPROM, VQFN-64; ki_fp_filters: VQFN*9x9mm*P0.5mm*; Footprint: Package_DFN_QFN:VQFN-64-1EP_9x9mm_P0.5mm_EP5.4x5.4mm; Supplier: http://ww1.microchip.com/downloads/en/DeviceDoc/PIC16LF19195-6-7-Data-Sheet-40001873D.pdf
footprint VQFN-64-1EP_9x9mm_P0.5mm_EP5.4x5.4mm
pins: 1 VLCD2/RE1 (io), 2 VLCD1/RE0 (io), 3 SEG42/RG0 (io), 4 SEG43/RG1 (io), 5 SEG44/RG2 (io), 6 SEG45/RG3 (io), 7 VPP/~{{MCLR}/RG5} (io), 8 SEG26/RG4 (io), 9 VSS (power), 10 VDD (power), 11 SEG25/RF7 (io), 12 SEG24/RF6 (io), 13 SEG23/RF5 (io), 14 SEG22/RF4 (io), 15 SEG21/RF3 (io), 16 SEG20/RF2 (io), 17 SEG19/RF1 (io), 18 SEG41/RF0 (io), 19 COM7/SEG15/RG7 (io), 20 COM6/RG6 (io), 21 RA3/SEG35 (io), 22 RA2/SEG34 (io), 23 RA1/SEG18 (io), 24 RA0/SEG33 (io), 25 COM5/RH1 (io), 26 COM4/RH0 (io), 27 RA5 (io), 28 RA4/SEG14 (io), 29 RC1 (io), 30 RC0 (io), 31 RC6/SEG27 (io), 32 RC7/SEG28 (io), 33 RC2/SEG13 (io), 34 RC3/SEG17 (io), 35 RC4/SEG16 (io), 36 RC5/SEG12 (io), 37 RB7/SEG39/ICSPDAT (io), 38 VDD (power), 39 RA7/SEG37 (io), 40 RA6/SEG36 (io), 41 VSS hidden, 42 RB6/SEG38/ICSPCLK (io), 43 RB5/SEG29 (io), 44 RB4/SEG11 (io), 45 RB3/SEG10 (io), 46 RB2/SEG9 (io), 47 RB1/SEG8 (io), 48 RB0/SEG30 (io), 49 RD7/SEG7 (io), 50 RD6/SEG6 (io), 51 RD5/SEG5 (io), 52 RD4/SEG4 (io), 53 RD3/SEG3 (io), 54 RD2/SEG2 (io), 55 RD1/SEG1 (io), 56 CFLY2/SEG40/RH3 (io), 57 CFLY1/SEG32/RH2 (io), 58 RD0/SEG0 (io), 59 SEG31/RE7 (io), 60 COM3/RE6 (io), 61 COM2/RE5 (io), 62 COM1/RE4 (io), 63 COM0/RE3 (io), 64 VLCD3 (in), 65 VSS hidden

## PIC16F19196-xMR
designator *  value PIC16F19196-xMR
ki_keywords: FLASH-Based 8-Bit CMOS Microcontroller; ki_description: 16kW FLASH, 2kB RAM, 256B EEPROM, QFN-64; ki_fp_filters: QFN*9x9mm*P0.5mm*; Footprint: Package_DFN_QFN:QFN-64-1EP_9x9mm_P0.5mm_EP5.4x5.4mm; Supplier: http://ww1.microchip.com/downloads/en/DeviceDoc/PIC16LF19195-6-7-Data-Sheet-40001873D.pdf
footprint QFN-64-1EP_9x9mm_P0.5mm_EP5.4x5.4mm
pins: 1 VLCD2/RE1 (io), 2 VLCD1/RE0 (io), 3 SEG42/RG0 (io), 4 SEG43/RG1 (io), 5 SEG44/RG2 (io), 6 SEG45/RG3 (io), 7 VPP/~{{MCLR}/RG5} (io), 8 SEG26/RG4 (io), 9 VSS (power), 10 VDD (power), 11 SEG25/RF7 (io), 12 SEG24/RF6 (io), 13 SEG23/RF5 (io), 14 SEG22/RF4 (io), 15 SEG21/RF3 (io), 16 SEG20/RF2 (io), 17 SEG19/RF1 (io), 18 SEG41/RF0 (io), 19 COM7/SEG15/RG7 (io), 20 COM6/RG6 (io), 21 RA3/SEG35 (io), 22 RA2/SEG34 (io), 23 RA1/SEG18 (io), 24 RA0/SEG33 (io), 25 COM5/RH1 (io), 26 COM4/RH0 (io), 27 RA5 (io), 28 RA4/SEG14 (io), 29 RC1 (io), 30 RC0 (io), 31 RC6/SEG27 (io), 32 RC7/SEG28 (io), 33 RC2/SEG13 (io), 34 RC3/SEG17 (io), 35 RC4/SEG16 (io), 36 RC5/SEG12 (io), 37 RB7/SEG39/ICSPDAT (io), 38 VDD (power), 39 RA7/SEG37 (io), 40 RA6/SEG36 (io), 41 VSS hidden, 42 RB6/SEG38/ICSPCLK (io), 43 RB5/SEG29 (io), 44 RB4/SEG11 (io), 45 RB3/SEG10 (io), 46 RB2/SEG9 (io), 47 RB1/SEG8 (io), 48 RB0/SEG30 (io), 49 RD7/SEG7 (io), 50 RD6/SEG6 (io), 51 RD5/SEG5 (io), 52 RD4/SEG4 (io), 53 RD3/SEG3 (io), 54 RD2/SEG2 (io), 55 RD1/SEG1 (io), 56 CFLY2/SEG40/RH3 (io), 57 CFLY1/SEG32/RH2 (io), 58 RD0/SEG0 (io), 59 SEG31/RE7 (io), 60 COM3/RE6 (io), 61 COM2/RE5 (io), 62 COM1/RE4 (io), 63 COM0/RE3 (io), 64 VLCD3 (in), 65 VSS hidden

## PIC16F19196-xPT
designator *  value PIC16F19196-xPT
ki_keywords: FLASH-Based 8-Bit CMOS Microcontroller; ki_description: 16kW FLASH, 2kB RAM, 256B EEPROM, TQFP-64; ki_fp_filters: TQFP*10x10mm*P0.5mm*; Footprint: Package_QFP:TQFP-64_10x10mm_P0.5mm; Supplier: http://ww1.microchip.com/downloads/en/DeviceDoc/PIC16LF19195-6-7-Data-Sheet-40001873D.pdf
footprint TQFP-64_10x10mm_P0.5mm
pins: 1 VLCD2/RE1 (io), 2 VLCD1/RE0 (io), 3 SEG42/RG0 (io), 4 SEG43/RG1 (io), 5 SEG44/RG2 (io), 6 SEG45/RG3 (io), 7 VPP/~{{MCLR}/RG5} (io), 8 SEG26/RG4 (io), 9 VSS (power), 10 VDD (power), 11 SEG25/RF7 (io), 12 SEG24/RF6 (io), 13 SEG23/RF5 (io), 14 SEG22/RF4 (io), 15 SEG21/RF3 (io), 16 SEG20/RF2 (io), 17 SEG19/RF1 (io), 18 SEG41/RF0 (io), 19 COM7/SEG15/RG7 (io), 20 COM6/RG6 (io), 21 RA3/SEG35 (io), 22 RA2/SEG34 (io), 23 RA1/SEG18 (io), 24 RA0/SEG33 (io), 25 COM5/RH1 (io), 26 COM4/RH0 (io), 27 RA5 (io), 28 RA4/SEG14 (io), 29 RC1 (io), 30 RC0 (io), 31 RC6/SEG27 (io), 32 RC7/SEG28 (io), 33 RC2/SEG13 (io), 34 RC3/SEG17 (io), 35 RC4/SEG16 (io), 36 RC5/SEG12 (io), 37 RB7/SEG39/ICSPDAT (io), 38 VDD (power), 39 RA7/SEG37 (io), 40 RA6/SEG36 (io), 41 VSS hidden, 42 RB6/SEG38/ICSPCLK (io), 43 RB5/SEG29 (io), 44 RB4/SEG11 (io), 45 RB3/SEG10 (io), 46 RB2/SEG9 (io), 47 RB1/SEG8 (io), 48 RB0/SEG30 (io), 49 RD7/SEG7 (io), 50 RD6/SEG6 (io), 51 RD5/SEG5 (io), 52 RD4/SEG4 (io), 53 RD3/SEG3 (io), 54 RD2/SEG2 (io), 55 RD1/SEG1 (io), 56 CFLY2/SEG40/RH3 (io), 57 CFLY1/SEG32/RH2 (io), 58 RD0/SEG0 (io), 59 SEG31/RE7 (io), 60 COM3/RE6 (io), 61 COM2/RE5 (io), 62 COM1/RE4 (io), 63 COM0/RE3 (io), 64 VLCD3 (in)

## PIC16F19197-x5LX
designator *  value PIC16F19197-x5LX
ki_keywords: FLASH-Based 8-Bit CMOS Microcontroller; ki_description: 32kW FLASH, 4kB RAM, 256B EEPROM, VQFN-64; ki_fp_filters: VQFN*9x9mm*P0.5mm*; Footprint: Package_DFN_QFN:VQFN-64-1EP_9x9mm_P0.5mm_EP5.4x5.4mm; Supplier: http://ww1.microchip.com/downloads/en/DeviceDoc/PIC16LF19195-6-7-Data-Sheet-40001873D.pdf
footprint VQFN-64-1EP_9x9mm_P0.5mm_EP5.4x5.4mm
pins: 1 VLCD2/RE1 (io), 2 VLCD1/RE0 (io), 3 SEG42/RG0 (io), 4 SEG43/RG1 (io), 5 SEG44/RG2 (io), 6 SEG45/RG3 (io), 7 VPP/~{{MCLR}/RG5} (io), 8 SEG26/RG4 (io), 9 VSS (power), 10 VDD (power), 11 SEG25/RF7 (io), 12 SEG24/RF6 (io), 13 SEG23/RF5 (io), 14 SEG22/RF4 (io), 15 SEG21/RF3 (io), 16 SEG20/RF2 (io), 17 SEG19/RF1 (io), 18 SEG41/RF0 (io), 19 COM7/SEG15/RG7 (io), 20 COM6/RG6 (io), 21 RA3/SEG35 (io), 22 RA2/SEG34 (io), 23 RA1/SEG18 (io), 24 RA0/SEG33 (io), 25 COM5/RH1 (io), 26 COM4/RH0 (io), 27 RA5 (io), 28 RA4/SEG14 (io), 29 RC1 (io), 30 RC0 (io), 31 RC6/SEG27 (io), 32 RC7/SEG28 (io), 33 RC2/SEG13 (io), 34 RC3/SEG17 (io), 35 RC4/SEG16 (io), 36 RC5/SEG12 (io), 37 RB7/SEG39/ICSPDAT (io), 38 VDD (power), 39 RA7/SEG37 (io), 40 RA6/SEG36 (io), 41 VSS hidden, 42 RB6/SEG38/ICSPCLK (io), 43 RB5/SEG29 (io), 44 RB4/SEG11 (io), 45 RB3/SEG10 (io), 46 RB2/SEG9 (io), 47 RB1/SEG8 (io), 48 RB0/SEG30 (io), 49 RD7/SEG7 (io), 50 RD6/SEG6 (io), 51 RD5/SEG5 (io), 52 RD4/SEG4 (io), 53 RD3/SEG3 (io), 54 RD2/SEG2 (io), 55 RD1/SEG1 (io), 56 CFLY2/SEG40/RH3 (io), 57 CFLY1/SEG32/RH2 (io), 58 RD0/SEG0 (io), 59 SEG31/RE7 (io), 60 COM3/RE6 (io), 61 COM2/RE5 (io), 62 COM1/RE4 (io), 63 COM0/RE3 (io), 64 VLCD3 (in), 65 VSS hidden

## PIC16F19197-xMR
designator *  value PIC16F19197-xMR
ki_keywords: FLASH-Based 8-Bit CMOS Microcontroller; ki_description: 32kW FLASH, 4kB RAM, 256B EEPROM, QFN-64; ki_fp_filters: QFN*9x9mm*P0.5mm*; Footprint: Package_DFN_QFN:QFN-64-1EP_9x9mm_P0.5mm_EP5.4x5.4mm; Supplier: http://ww1.microchip.com/downloads/en/DeviceDoc/PIC16LF19195-6-7-Data-Sheet-40001873D.pdf
footprint QFN-64-1EP_9x9mm_P0.5mm_EP5.4x5.4mm
pins: 1 VLCD2/RE1 (io), 2 VLCD1/RE0 (io), 3 SEG42/RG0 (io), 4 SEG43/RG1 (io), 5 SEG44/RG2 (io), 6 SEG45/RG3 (io), 7 VPP/~{{MCLR}/RG5} (io), 8 SEG26/RG4 (io), 9 VSS (power), 10 VDD (power), 11 SEG25/RF7 (io), 12 SEG24/RF6 (io), 13 SEG23/RF5 (io), 14 SEG22/RF4 (io), 15 SEG21/RF3 (io), 16 SEG20/RF2 (io), 17 SEG19/RF1 (io), 18 SEG41/RF0 (io), 19 COM7/SEG15/RG7 (io), 20 COM6/RG6 (io), 21 RA3/SEG35 (io), 22 RA2/SEG34 (io), 23 RA1/SEG18 (io), 24 RA0/SEG33 (io), 25 COM5/RH1 (io), 26 COM4/RH0 (io), 27 RA5 (io), 28 RA4/SEG14 (io), 29 RC1 (io), 30 RC0 (io), 31 RC6/SEG27 (io), 32 RC7/SEG28 (io), 33 RC2/SEG13 (io), 34 RC3/SEG17 (io), 35 RC4/SEG16 (io), 36 RC5/SEG12 (io), 37 RB7/SEG39/ICSPDAT (io), 38 VDD (power), 39 RA7/SEG37 (io), 40 RA6/SEG36 (io), 41 VSS hidden, 42 RB6/SEG38/ICSPCLK (io), 43 RB5/SEG29 (io), 44 RB4/SEG11 (io), 45 RB3/SEG10 (io), 46 RB2/SEG9 (io), 47 RB1/SEG8 (io), 48 RB0/SEG30 (io), 49 RD7/SEG7 (io), 50 RD6/SEG6 (io), 51 RD5/SEG5 (io), 52 RD4/SEG4 (io), 53 RD3/SEG3 (io), 54 RD2/SEG2 (io), 55 RD1/SEG1 (io), 56 CFLY2/SEG40/RH3 (io), 57 CFLY1/SEG32/RH2 (io), 58 RD0/SEG0 (io), 59 SEG31/RE7 (io), 60 COM3/RE6 (io), 61 COM2/RE5 (io), 62 COM1/RE4 (io), 63 COM0/RE3 (io), 64 VLCD3 (in), 65 VSS hidden

## PIC16F19197-xPT
designator *  value PIC16F19197-xPT
ki_keywords: FLASH-Based 8-Bit CMOS Microcontroller; ki_description: 32kW FLASH, 4kB RAM, 256B EEPROM, TQFP-64; ki_fp_filters: TQFP*10x10mm*P0.5mm*; Footprint: Package_QFP:TQFP-64_10x10mm_P0.5mm; Supplier: http://ww1.microchip.com/downloads/en/DeviceDoc/PIC16LF19195-6-7-Data-Sheet-40001873D.pdf
footprint TQFP-64_10x10mm_P0.5mm
pins: 1 VLCD2/RE1 (io), 2 VLCD1/RE0 (io), 3 SEG42/RG0 (io), 4 SEG43/RG1 (io), 5 SEG44/RG2 (io), 6 SEG45/RG3 (io), 7 VPP/~{{MCLR}/RG5} (io), 8 SEG26/RG4 (io), 9 VSS (power), 10 VDD (power), 11 SEG25/RF7 (io), 12 SEG24/RF6 (io), 13 SEG23/RF5 (io), 14 SEG22/RF4 (io), 15 SEG21/RF3 (io), 16 SEG20/RF2 (io), 17 SEG19/RF1 (io), 18 SEG41/RF0 (io), 19 COM7/SEG15/RG7 (io), 20 COM6/RG6 (io), 21 RA3/SEG35 (io), 22 RA2/SEG34 (io), 23 RA1/SEG18 (io), 24 RA0/SEG33 (io), 25 COM5/RH1 (io), 26 COM4/RH0 (io), 27 RA5 (io), 28 RA4/SEG14 (io), 29 RC1 (io), 30 RC0 (io), 31 RC6/SEG27 (io), 32 RC7/SEG28 (io), 33 RC2/SEG13 (io), 34 RC3/SEG17 (io), 35 RC4/SEG16 (io), 36 RC5/SEG12 (io), 37 RB7/SEG39/ICSPDAT (io), 38 VDD (power), 39 RA7/SEG37 (io), 40 RA6/SEG36 (io), 41 VSS hidden, 42 RB6/SEG38/ICSPCLK (io), 43 RB5/SEG29 (io), 44 RB4/SEG11 (io), 45 RB3/SEG10 (io), 46 RB2/SEG9 (io), 47 RB1/SEG8 (io), 48 RB0/SEG30 (io), 49 RD7/SEG7 (io), 50 RD6/SEG6 (io), 51 RD5/SEG5 (io), 52 RD4/SEG4 (io), 53 RD3/SEG3 (io), 54 RD2/SEG2 (io), 55 RD1/SEG1 (io), 56 CFLY2/SEG40/RH3 (io), 57 CFLY1/SEG32/RH2 (io), 58 RD0/SEG0 (io), 59 SEG31/RE7 (io), 60 COM3/RE6 (io), 61 COM2/RE5 (io), 62 COM1/RE4 (io), 63 COM0/RE3 (io), 64 VLCD3 (in)

## PIC16LF1786-xML
designator *  value PIC16LF1786-xML
ki_keywords: FLASH-Based 8-Bit CMOS Microcontroller XLP; ki_description: 8-bit Flash MCU, 32MHz, 16KB Flash, 1KB RAM, 256B EEPROM, QFN-28; ki_fp_filters: QFN*1EP*6x6mm*P0.65mm*; Footprint: Package_DFN_QFN:QFN-28-1EP_6x6mm_P0.65mm_EP4.25x4.25mm; Supplier: http://ww1.microchip.com/downloads/en/DeviceDoc/40001637C.pdf
footprint QFN-28-1EP_6x6mm_P0.65mm_EP4.25x4.25mm
pins: 1 RA2 (io), 2 RA3 (io), 3 RA4 (io), 4 RA5 (io), 5 VSS (power), 6 RA7 (io), 7 RA6 (io), 8 RC0 (io), 9 RC1 (io), 10 RC2 (io), 11 RC3 (io), 12 RC4 (io), 13 RC5 (io), 14 RC6 (io), 15 RC7 (io), 16 VSS hidden, 17 VDD (power), 18 RB0 (io), 19 RB1 (io), 20 RB2 (io), 21 RB3 (io), 22 RB4 (io), 23 RB5 (io), 24 ICSPCLK/RB6 (io), 25 ICSPDAT/RB7 (io), 26 RE3/~{{MCLR}/VPP} (in), 27 RA0 (io), 28 RA1 (io)

## PIC16LF1786-xP
designator *  value PIC16LF1786-xP
ki_keywords: FLASH-Based 8-Bit CMOS Microcontroller XLP; ki_description: 8-bit Flash MCU, 32MHz, 16KB Flash, 1KB RAM, 256B EEPROM, PDIP-28; ki_fp_filters: DIP*W15.24mm*; Footprint: Package_DIP:DIP-28_W15.24mm; Supplier: http://ww1.microchip.com/downloads/en/DeviceDoc/40001637C.pdf
footprint DIP-28_W15.24mm
pins: 1 RA2 (io), 2 RA3 (io), 3 RA4 (io), 4 RA5 (io), 5 VSS (power), 6 RA7 (io), 7 RA6 (io), 8 RC0 (io), 9 RC1 (io), 10 RC2 (io), 11 RC3 (io), 12 RC4 (io), 13 RC5 (io), 14 RC6 (io), 15 RC7 (io), 16 VSS hidden, 17 VDD (power), 18 RB0 (io), 19 RB1 (io), 20 RB2 (io), 21 RB3 (io), 22 RB4 (io), 23 RB5 (io), 24 ICSPCLK/RB6 (io), 25 ICSPDAT/RB7 (io), 26 RE3/~{{MCLR}/VPP} (in), 27 RA0 (io), 28 RA1 (io)

## PIC16LF1786-xSP
designator *  value PIC16LF1786-xSP
ki_keywords: FLASH-Based 8-Bit CMOS Microcontroller XLP; ki_description: 8-bit Flash MCU, 32MHz, 16KB Flash, 1KB RAM, 256B EEPROM, SPDIP-28; ki_fp_filters: DIP*W7.62mm*; Footprint: Package_DIP:DIP-28_W7.62mm; Supplier: http://ww1.microchip.com/downloads/en/DeviceDoc/40001637C.pdf
footprint DIP-28_W7.62mm
pins: 1 RA2 (io), 2 RA3 (io), 3 RA4 (io), 4 RA5 (io), 5 VSS (power), 6 RA7 (io), 7 RA6 (io), 8 RC0 (io), 9 RC1 (io), 10 RC2 (io), 11 RC3 (io), 12 RC4 (io), 13 RC5 (io), 14 RC6 (io), 15 RC7 (io), 16 VSS hidden, 17 VDD (power), 18 RB0 (io), 19 RB1 (io), 20 RB2 (io), 21 RB3 (io), 22 RB4 (io), 23 RB5 (io), 24 ICSPCLK/RB6 (io), 25 ICSPDAT/RB7 (io), 26 RE3/~{{MCLR}/VPP} (in), 27 RA0 (io), 28 RA1 (io)

## PIC16LF15356-xML
designator *  value PIC16LF15356-xML
ki_keywords: FLASH-Based 8-Bit CMOS Microcontroller Low Power; ki_description: 16KW FLASH, 2048B SRAM, QFN-28(6x6mm); ki_fp_filters: QFN*6x6mm*; Footprint: Package_DFN_QFN:QFN-28-1EP_6x6mm_P0.65mm_EP4.25x4.25mm; Supplier: http://ww1.microchip.com/downloads/en/DeviceDoc/PIC16LF15356-75-76-85-86-Data%20Sheet-40001866B.pdf
footprint QFN-28-1EP_6x6mm_P0.65mm_EP4.25x4.25mm
pins: 1 RA2 (io), 2 RA3 (io), 3 RA4 (io), 4 RA5 (io), 5 VSS (power), 6 RA7 (io), 7 RA6 (io), 8 RC0 (io), 9 RC1 (io), 10 RC2 (io), 11 RC3 (io), 12 RC4 (io), 13 RC5 (io), 14 RC6 (io), 15 RC7 (io), 16 VSS (power), 17 VDD (power), 18 RB0 (io), 19 RB1 (io), 20 RB2 (io), 21 RB3 (io), 22 RB4 (io), 23 RB5 (io), 24 RB6/ICSPCLK (io), 25 RB7/ICSPDAT (io), 26 RE3/~{{MCLR}/VPP} (io), 27 RA0 (io), 28 RA1 (io), 29 PAD (power)

## PIC16LF15356-xMV
designator *  value PIC16LF15356-xMV
ki_keywords: FLASH-Based 8-Bit CMOS Microcontroller Low Power; ki_description: 16KW FLASH, 2048B SRAM, QFN-28(4x4mm); ki_fp_filters: QFN*4x4mm*; Footprint: Package_DFN_QFN:QFN-28-1EP_4x4mm_P0.4mm_EP2.3x2.3mm; Supplier: http://ww1.microchip.com/downloads/en/DeviceDoc/PIC16LF15356-75-76-85-86-Data%20Sheet-40001866B.pdf
footprint QFN-28-1EP_4x4mm_P0.4mm_EP2.3x2.3mm
pins: 1 RA2 (io), 2 RA3 (io), 3 RA4 (io), 4 RA5 (io), 5 VSS (power), 6 RA7 (io), 7 RA6 (io), 8 RC0 (io), 9 RC1 (io), 10 RC2 (io), 11 RC3 (io), 12 RC4 (io), 13 RC5 (io), 14 RC6 (io), 15 RC7 (io), 16 VSS (power), 17 VDD (power), 18 RB0 (io), 19 RB1 (io), 20 RB2 (io), 21 RB3 (io), 22 RB4 (io), 23 RB5 (io), 24 RB6/ICSPCLK (io), 25 RB7/ICSPDAT (io), 26 RE3/~{{MCLR}/VPP} (io), 27 RA0 (io), 28 RA1 (io), 29 PAD (power)

## PIC16LF15356-xSO
designator *  value PIC16LF15356-xSO
ki_keywords: FLASH-Based 8-Bit CMOS Microcontroller Low Power; ki_description: 16KW FLASH, 2048B SRAM, SOIC-28; ki_fp_filters: SOIC*.5x17.9mm*; Footprint: Package_SO:SOIC-28W_7.5x17.9mm_P1.27mm; Supplier: http://ww1.microchip.com/downloads/en/DeviceDoc/PIC16LF15356-75-76-85-86-Data%20Sheet-40001866B.pdf
footprint SOIC-28W_7.5x17.9mm_P1.27mm
pins: 1 VPP/~{{MCLR}/RE3} (io), 2 RA0 (io), 3 RA1 (io), 4 RA2 (io), 5 RA3 (io), 6 RA4 (io), 7 RA5 (io), 8 VSS (power), 9 RA7 (io), 10 RA6 (io), 11 RC0 (io), 12 RC1 (io), 13 RC2 (io), 14 RC3 (io), 15 RC4 (io), 16 RC5 (io), 17 RC6 (io), 18 RC7 (io), 19 VSS (power), 20 VDD (power), 21 RB0 (io), 22 RB1 (io), 23 RB2 (io), 24 RB3 (io), 25 RB4 (io), 26 RB5 (io), 27 RB6/ICSPCLK (io), 28 RB7/ICSPDAT (io)

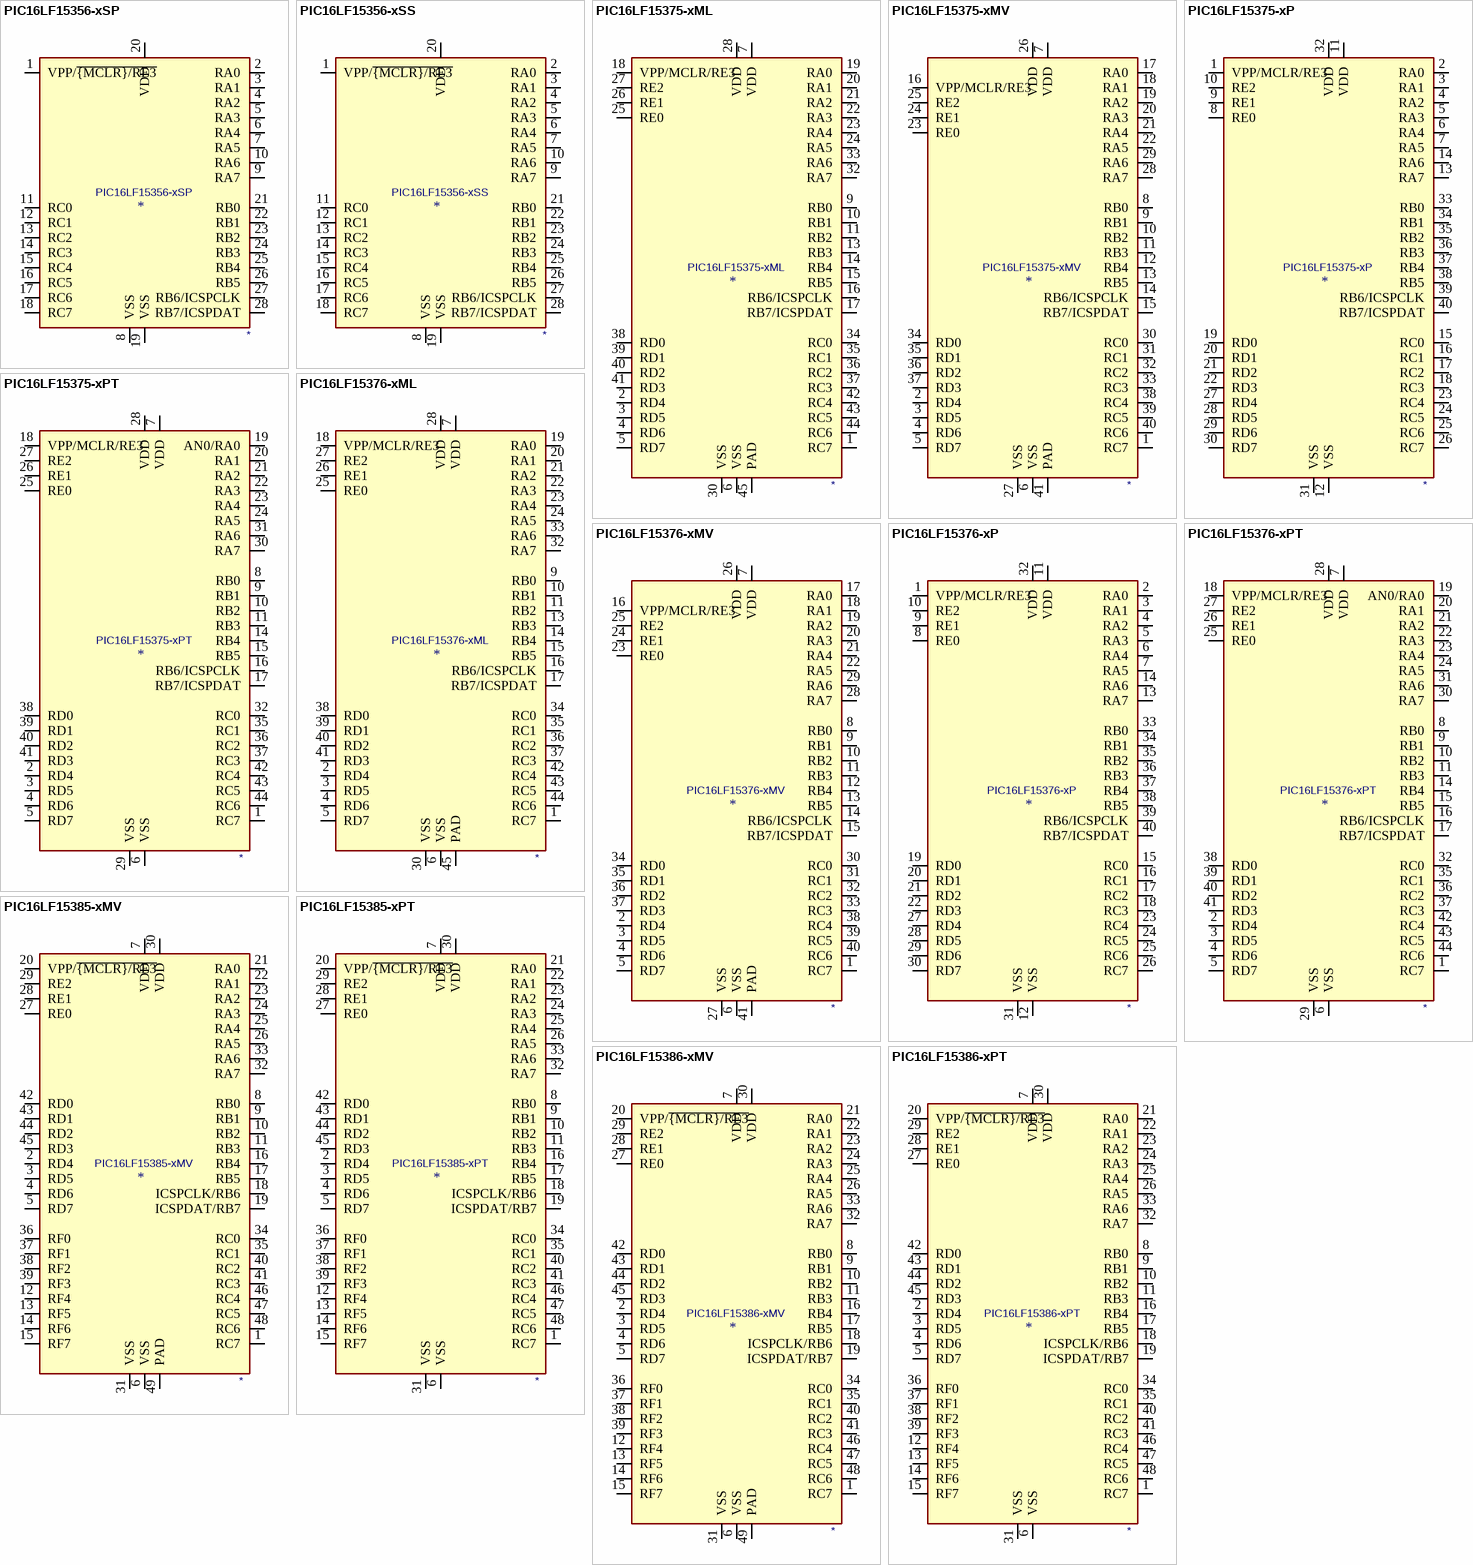
[diagram p17: symbols PIC16LF15356-xSP to PIC16LF15386-xPT]

## PIC16LF15356-xSP
designator *  value PIC16LF15356-xSP
ki_keywords: FLASH-Based 8-Bit CMOS Microcontroller Low Power; ki_description: 16KW FLASH, 2048B SRAM, DIP-28; ki_fp_filters: DIP*7.62mm*; Footprint: Package_DIP:DIP-28_W7.62mm; Supplier: http://ww1.microchip.com/downloads/en/DeviceDoc/PIC16LF15356-75-76-85-86-Data%20Sheet-40001866B.pdf
footprint DIP-28_W7.62mm
pins: 1 VPP/~{{MCLR}/RE3} (io), 2 RA0 (io), 3 RA1 (io), 4 RA2 (io), 5 RA3 (io), 6 RA4 (io), 7 RA5 (io), 8 VSS (power), 9 RA7 (io), 10 RA6 (io), 11 RC0 (io), 12 RC1 (io), 13 RC2 (io), 14 RC3 (io), 15 RC4 (io), 16 RC5 (io), 17 RC6 (io), 18 RC7 (io), 19 VSS (power), 20 VDD (power), 21 RB0 (io), 22 RB1 (io), 23 RB2 (io), 24 RB3 (io), 25 RB4 (io), 26 RB5 (io), 27 RB6/ICSPCLK (io), 28 RB7/ICSPDAT (io)

## PIC16LF15356-xSS
designator *  value PIC16LF15356-xSS
ki_keywords: FLASH-Based 8-Bit CMOS Microcontroller Low Power; ki_description: 16KW FLASH, 2048B SRAM, SSOP-28; ki_fp_filters: SSOP*5.3x10.2mm*; Footprint: Package_SO:SSOP-28_5.3x10.2mm_P0.65mm; Supplier: http://ww1.microchip.com/downloads/en/DeviceDoc/PIC16LF15356-75-76-85-86-Data%20Sheet-40001866B.pdf
footprint SSOP-28_5.3x10.2mm_P0.65mm
pins: 1 VPP/~{{MCLR}/RE3} (io), 2 RA0 (io), 3 RA1 (io), 4 RA2 (io), 5 RA3 (io), 6 RA4 (io), 7 RA5 (io), 8 VSS (power), 9 RA7 (io), 10 RA6 (io), 11 RC0 (io), 12 RC1 (io), 13 RC2 (io), 14 RC3 (io), 15 RC4 (io), 16 RC5 (io), 17 RC6 (io), 18 RC7 (io), 19 VSS (power), 20 VDD (power), 21 RB0 (io), 22 RB1 (io), 23 RB2 (io), 24 RB3 (io), 25 RB4 (io), 26 RB5 (io), 27 RB6/ICSPCLK (io), 28 RB7/ICSPDAT (io)

## PIC16LF15375-xML
designator *  value PIC16LF15375-xML
ki_keywords: FLASH-Based 8-Bit CMOS Microcontroller Low Power; ki_description: 8KW FLASH, 1024B SRAM, QFN-44(8x8mm); ki_fp_filters: QFN*8x8mm*; Footprint: Package_DFN_QFN:QFN-44-1EP_8x8mm_P0.65mm_EP6.45x6.45mm; Supplier: http://ww1.microchip.com/downloads/en/DeviceDoc/PIC16LF15356-75-76-85-86-Data%20Sheet-40001866B.pdf
footprint QFN-44-1EP_8x8mm_P0.65mm_EP6.45x6.45mm
pins: 1 RC7 (io), 2 RD4 (io), 3 RD5 (io), 4 RD6 (io), 5 RD7 (io), 6 VSS (power), 7 VDD (power), 8 NC (in) hidden, 9 RB0 (io), 10 RB1 (io), 11 RB2 (io), 13 RB3 (io), 13 NC (in) hidden, 14 RB4 (io), 15 RB5 (io), 16 RB6/ICSPCLK (io), 17 RB7/ICSPDAT (io), 18 VPP/MCLR/RE3 (io), 19 RA0 (io), 20 RA1 (io), 21 RA2 (io), 22 RA3 (io), 23 RA4 (io), 24 RA5 (io), 25 RE0 (io), 26 RE1 (io), 27 RE2 (io), 28 VDD (power), 29 NC (in) hidden, 30 VSS (power), 31 NC (in) hidden, 32 RA7 (io), 33 RA6 (io), 34 RC0 (io), 35 RC1 (io), 36 RC2 (io), 37 RC3 (io), 38 RD0 (io), 39 RD1 (io), 40 RD2 (io), 41 RD3 (io), 42 RC4 (io), 43 RC5 (io), 44 RC6 (io), 45 PAD (power)

## PIC16LF15375-xMV
designator *  value PIC16LF15375-xMV
ki_keywords: FLASH-Based 8-Bit CMOS Microcontroller Low Power; ki_description: 8KW FLASH, 1024B SRAM, QFN-40(5x5mm); ki_fp_filters: QFN*5x5mm*EP3.8x3.8mm*; Footprint: Package_DFN_QFN:QFN-40-1EP_5x5mm_P0.4mm_EP3.8x3.8mm; Supplier: http://ww1.microchip.com/downloads/en/DeviceDoc/PIC16LF15356-75-76-85-86-Data%20Sheet-40001866B.pdf
footprint QFN-40-1EP_5x5mm_P0.4mm_EP3.8x3.8mm
pins: 1 RC7 (io), 2 RD4 (io), 3 RD5 (io), 4 RD6 (io), 5 RD7 (io), 6 VSS (power), 7 VDD (power), 8 RB0 (io), 9 RB1 (io), 10 RB2 (io), 11 RB3 (io), 12 RB4 (io), 13 RB5 (io), 14 RB6/ICSPCLK (io), 15 RB7/ICSPDAT (io), 16 VPP/MCLR/RE3 (io), 17 RA0 (io), 18 RA1 (io), 19 RA2 (io), 20 RA3 (io), 21 RA4 (io), 22 RA5 (io), 23 RE0 (io), 24 RE1 (io), 25 RE2 (io), 26 VDD (power), 27 VSS (power), 28 RA7 (io), 29 RA6 (io), 30 RC0 (io), 31 RC1 (io), 32 RC2 (io), 33 RC3 (io), 34 RD0 (io), 35 RD1 (io), 36 RD2 (io), 37 RD3 (io), 38 RC4 (io), 39 RC5 (io), 40 RC6 (io), 41 PAD (power)

## PIC16LF15375-xP
designator *  value PIC16LF15375-xP
ki_keywords: FLASH-Based 8-Bit CMOS Microcontroller Low Power; ki_description: 8KW FLASH, 1024B SRAM, DIP-40; ki_fp_filters: DIP*15.24mm*; Footprint: Package_DIP:DIP-40_W15.24mm; Supplier: http://ww1.microchip.com/downloads/en/DeviceDoc/PIC16LF15356-75-76-85-86-Data%20Sheet-40001866B.pdf
footprint DIP-40_W15.24mm
pins: 1 VPP/MCLR/RE3 (io), 2 RA0 (io), 3 RA1 (io), 4 RA2 (io), 5 RA3 (io), 6 RA4 (io), 7 RA5 (io), 8 RE0 (io), 9 RE1 (io), 10 RE2 (io), 11 VDD (power), 12 VSS (power), 13 RA7 (io), 14 RA6 (io), 15 RC0 (io), 16 RC1 (io), 17 RC2 (io), 18 RC3 (io), 19 RD0 (io), 20 RD1 (io), 21 RD2 (io), 22 RD3 (io), 23 RC4 (io), 24 RC5 (io), 25 RC6 (io), 26 RC7 (io), 27 RD4 (io), 28 RD5 (io), 29 RD6 (io), 30 RD7 (io), 31 VSS (power), 32 VDD (power), 33 RB0 (io), 34 RB1 (io), 35 RB2 (io), 36 RB3 (io), 37 RB4 (io), 38 RB5 (io), 39 RB6/ICSPCLK (io), 40 RB7/ICSPDAT (io)

## PIC16LF15375-xPT
designator *  value PIC16LF15375-xPT
ki_keywords: FLASH-Based 8-Bit CMOS Microcontroller Low Power; ki_description: 8KW FLASH, 1024B SRAM, TQFP-44(10x10mm); ki_fp_filters: TQFP*10x10mm*; Footprint: Package_QFP:TQFP-44_10x10mm_P0.8mm; Supplier: http://ww1.microchip.com/downloads/en/DeviceDoc/PIC16LF15356-75-76-85-86-Data%20Sheet-40001866B.pdf
footprint TQFP-44_10x10mm_P0.8mm
pins: 1 RC7 (io), 2 RD4 (io), 3 RD5 (io), 4 RD6 (io), 5 RD7 (io), 6 VSS (power), 7 VDD (power), 8 RB0 (io), 9 RB1 (io), 10 RB2 (io), 11 RB3 (io), 12 NC (in) hidden, 13 NC (in) hidden, 14 RB4 (io), 15 RB5 (io), 16 RB6/ICSPCLK (io), 17 RB7/ICSPDAT (io), 18 VPP/MCLR/RE3 (io), 19 AN0/RA0 (io), 20 RA1 (io), 21 RA2 (io), 22 RA3 (io), 23 RA4 (io), 24 RA5 (io), 25 RE0 (io), 26 RE1 (io), 27 RE2 (io), 28 VDD (power), 29 VSS (power), 30 RA7 (io), 31 RA6 (io), 32 RC0 (io), 33 NC (in) hidden, 34 NC (in) hidden, 35 RC1 (io), 36 RC2 (io), 37 RC3 (io), 38 RD0 (io), 39 RD1 (io), 40 RD2 (io), 41 RD3 (io), 42 RC4 (io), 43 RC5 (io), 44 RC6 (io)